# Altium schematic symbol library 74xx_IEEE.SchLib: 185 symbols (part 1 of 2)
Pins are listed as number, name and electrical type; pins without a type are passive.

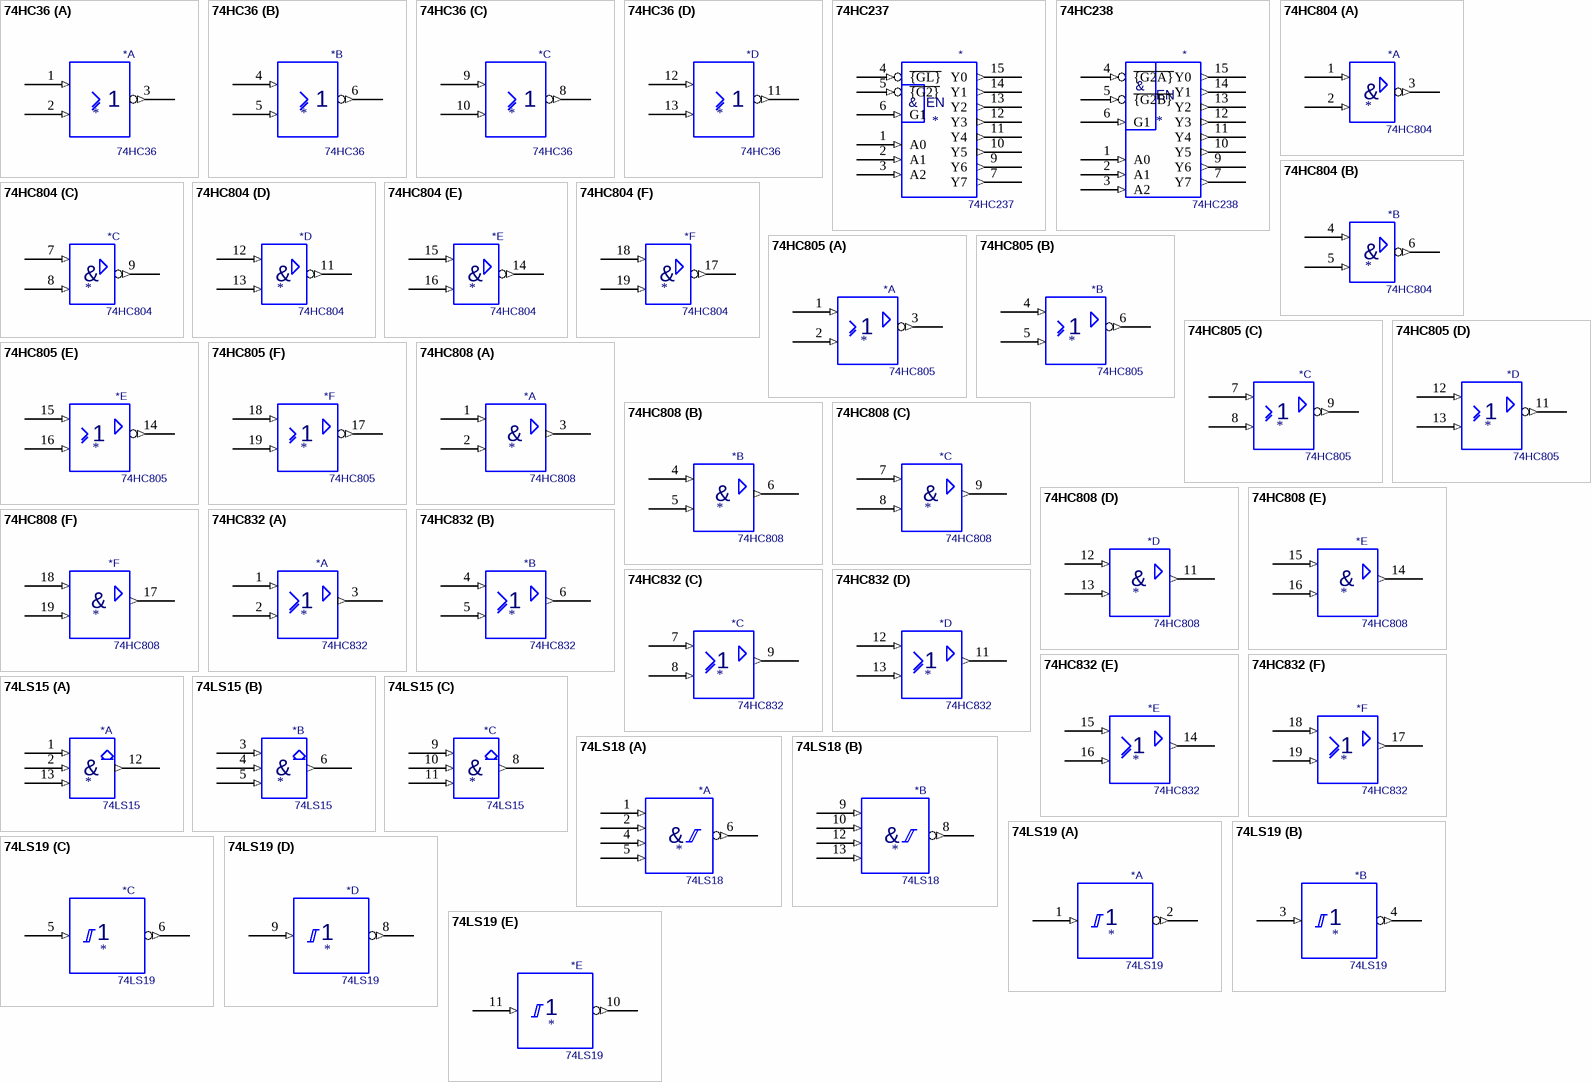
[diagram p0: symbols 74HC36 to 74LS19]

## 74HC36
designator *  value 74HC36
part A pins: 1 (in), 2 (in), 3 (out), 7 Gnd (power) hidden, 14 Vcc (power) hidden
part B pins: 4 (in), 5 (in), 6 (out), 7 Gnd (power) hidden, 14 Vcc (power) hidden
part C pins: 7 Gnd (power) hidden, 8 (out), 9 (in), 10 (in), 14 Vcc (power) hidden
part D pins: 7 Gnd (power) hidden, 11 (out), 12 (in), 13 (in), 14 Vcc (power) hidden

## 74HC237
designator *  value 74HC237
pins: 1 A0 (in), 2 A1 (in), 3 A2 (in), 4 ~{{GL}} (in), 5 ~{{G2}} (in), 6 G1 (in), 7 Y7 (out), 8 GND (power) hidden, 9 Y6 (out), 10 Y5 (out), 11 Y4 (out), 12 Y3 (out), 13 Y2 (out), 14 Y1 (out), 15 Y0 (out), 16 VCC (power) hidden
text: &; EN

## 74HC238
designator *  value 74HC238
pins: 1 A0 (in), 2 A1 (in), 3 A2 (in), 4 ~{{G2A}} (in), 5 ~{{G2B}} (in), 6 G1 (in), 7 Y7 (out), 8 GND (power) hidden, 9 Y6 (out), 10 Y5 (out), 11 Y4 (out), 12 Y3 (out), 13 Y2 (out), 14 Y1 (out), 15 Y0 (out), 16 VCC (power) hidden
text: &; EN

## 74HC804
designator *  value 74HC804
part A pins: 1 (in), 2 (in), 3 (out), 10 Gnd (power) hidden, 20 Vcc (power) hidden
part B pins: 4 (in), 5 (in), 6 (out), 10 Gnd (power) hidden, 20 Vcc (power) hidden
part C pins: 7 (in), 8 (in), 9 (out), 10 Gnd (power) hidden, 20 Vcc (power) hidden
part D pins: 10 Gnd (power) hidden, 11 (out), 12 (in), 13 (in), 20 Vcc (power) hidden
part E pins: 10 Gnd (power) hidden, 14 (out), 15 (in), 16 (in), 20 Vcc (power) hidden
part F pins: 10 Gnd (power) hidden, 17 (out), 18 (in), 19 (in), 20 Vcc (power) hidden
part A text: &
part B text: &
part C text: &
part D text: &
part E text: &
part F text: &

## 74HC805
designator *  value 74HC805
part A pins: 1 (in), 2 (in), 3 (out), 10 Gnd (power) hidden, 20 Vcc (power) hidden
part B pins: 4 (in), 5 (in), 6 (out), 10 Gnd (power) hidden, 20 Vcc (power) hidden
part C pins: 7 (in), 8 (in), 9 (out), 10 Gnd (power) hidden, 20 Vcc (power) hidden
part D pins: 10 Gnd (power) hidden, 11 (out), 12 (in), 13 (in), 20 Vcc (power) hidden
part E pins: 10 Gnd (power) hidden, 14 (out), 15 (in), 16 (in), 20 Vcc (power) hidden
part F pins: 10 Gnd (power) hidden, 17 (out), 18 (in), 19 (in), 20 Vcc (power) hidden

## 74HC808
designator *  value 74HC808
part A pins: 1 (in), 2 (in), 3 (out), 10 Gnd (power) hidden, 20 Vcc (power) hidden
part B pins: 4 (in), 5 (in), 6 (out), 10 Gnd (power) hidden, 20 Vcc (power) hidden
part C pins: 7 (in), 8 (in), 9 (out), 10 Gnd (power) hidden, 20 Vcc (power) hidden
part D pins: 10 Gnd (power) hidden, 11 (out), 12 (in), 13 (in), 20 Vcc (power) hidden
part E pins: 10 Gnd (power) hidden, 14 (out), 15 (in), 16 (in), 20 Vcc (power) hidden
part F pins: 10 Gnd (power) hidden, 17 (out), 18 (in), 19 (in), 20 Vcc (power) hidden
part A text: &
part B text: &
part C text: &
part D text: &
part E text: &
part F text: &

## 74HC832
designator *  value 74HC832
part A pins: 1 (in), 2 (in), 3 (out), 10 Gnd (power) hidden, 20 Vcc (power) hidden
part B pins: 4 (in), 5 (in), 6 (out), 10 Gnd (power) hidden, 20 Vcc (power) hidden
part C pins: 7 (in), 8 (in), 9 (out), 10 Gnd (power) hidden, 20 Vcc (power) hidden
part D pins: 10 Gnd (power) hidden, 11 (out), 12 (in), 13 (in), 20 Vcc (power) hidden
part E pins: 10 Gnd (power) hidden, 14 (out), 15 (in), 16 (in), 20 Vcc (power) hidden
part F pins: 10 Gnd (power) hidden, 17 (out), 18 (in), 19 (in), 20 Vcc (power) hidden

## 74LS15
designator *  value 74LS15
part A pins: 1 (in), 2 (in), 7 Gnd (power) hidden, 12 (out), 13 (in), 14 Vcc (power) hidden
part B pins: 3 (in), 4 (in), 5 (in), 6 (out), 7 Gnd (power) hidden, 14 Vcc (power) hidden
part C pins: 7 Gnd (power) hidden, 8 (out), 9 (in), 10 (in), 11 (in), 14 Vcc (power) hidden
part A text: &
part B text: &
part C text: &

## 74LS18
designator *  value 74LS18
part A pins: 1 (in), 2 (in), 4 (in), 5 (in), 6 (out), 7 Vss (power) hidden, 14 Vdd (power) hidden
part B pins: 7 Vss (power) hidden, 8 (out), 9 (in), 10 (in), 12 (in), 13 (in), 14 Vdd (power) hidden
part A text: &
part B text: &

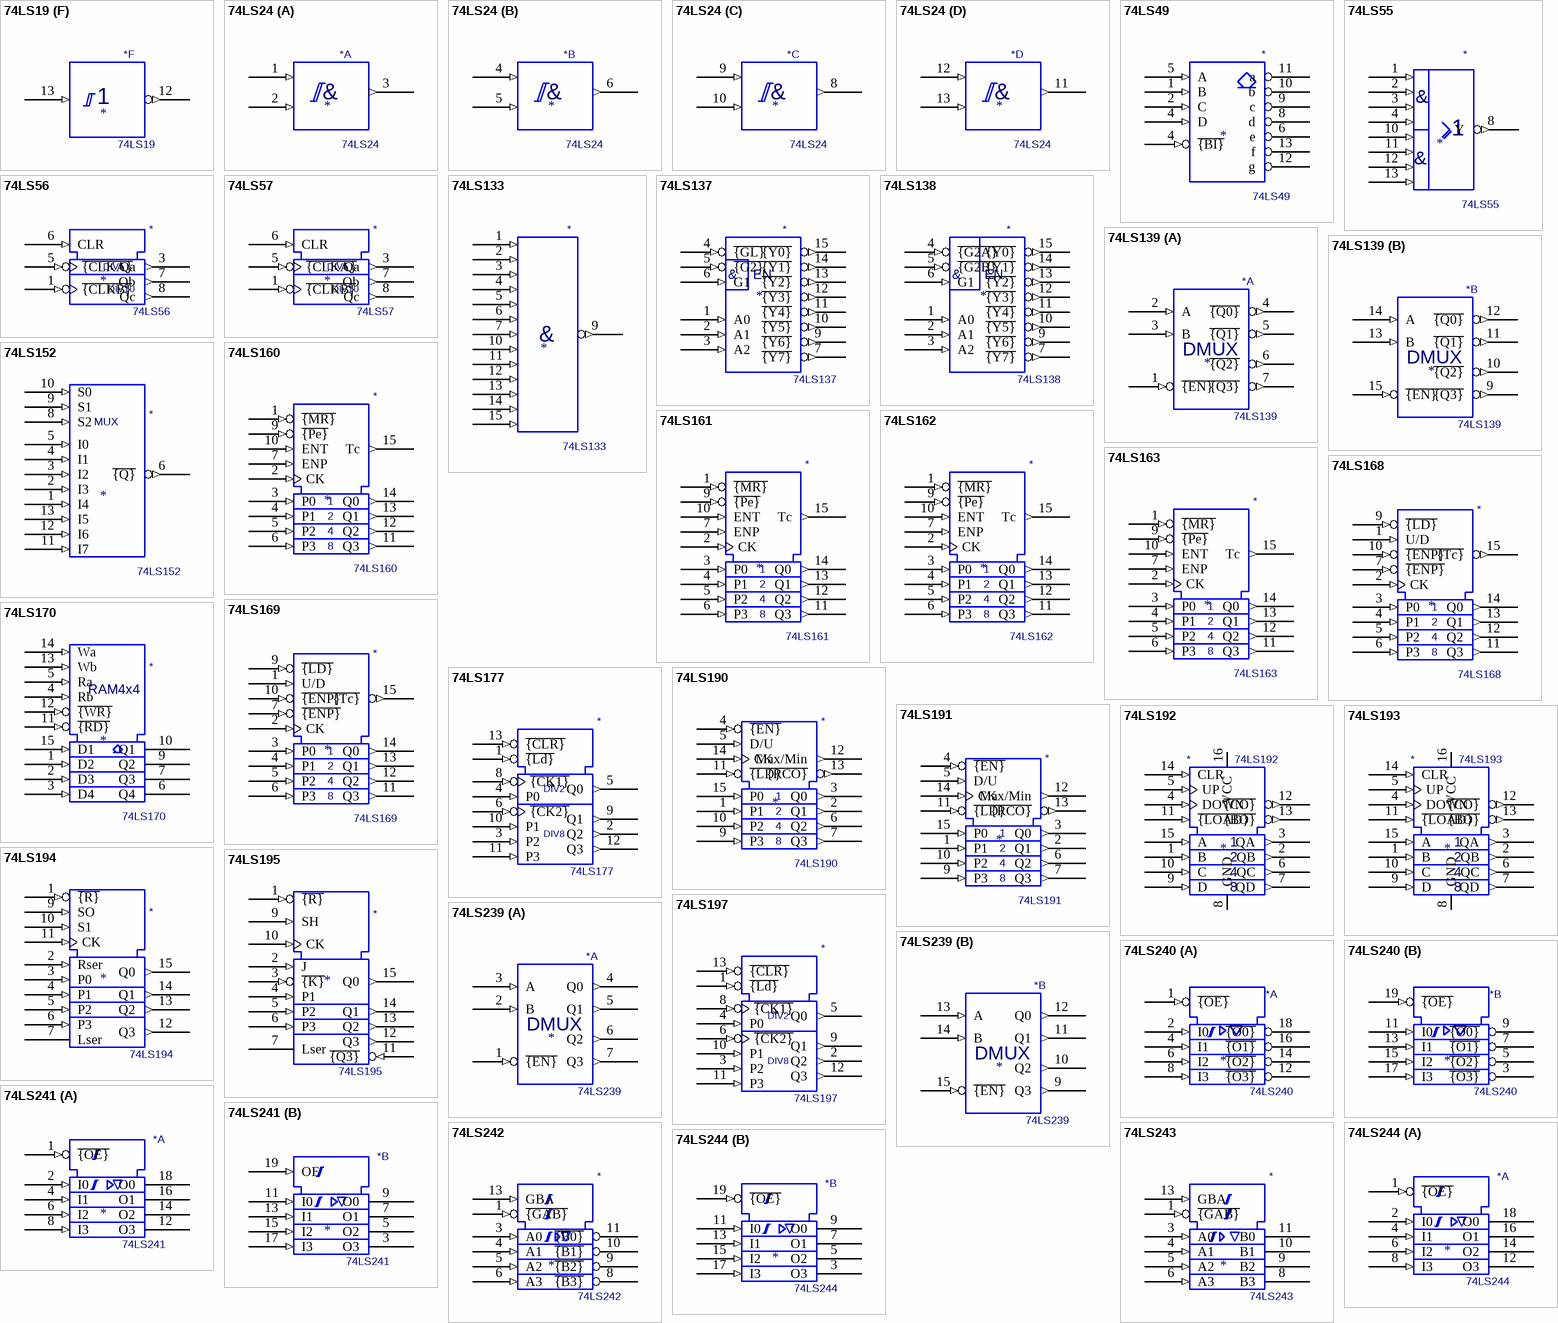
[diagram p1: symbols 74LS19 to 74LS244]

## 74LS19
designator *  value 74LS19
part A pins: 1 (in), 2 (out), 7 Gnd (power) hidden, 14 Vcc (power) hidden
part B pins: 3 (in), 4 (out), 7 Gnd (power) hidden, 14 Vcc (power) hidden
part C pins: 5 (in), 6 (out), 7 Gnd (power) hidden, 14 Vcc (power) hidden
part D pins: 7 Gnd (power) hidden, 8 (out), 9 (in), 14 Vcc (power) hidden
part E pins: 7 Gnd (power) hidden, 10 (out), 11 (in), 14 Vcc (power) hidden
part F pins: 7 Gnd (power) hidden, 12 (out), 13 (in), 14 Vcc (power) hidden

## 74LS24
designator *  value 74LS24
part A pins: 1 (in), 2 (in), 3 (out), 7 Gnd (power) hidden, 14 Vcc (power) hidden
part B pins: 4 (in), 5 (in), 6 (out), 7 Gnd (power) hidden, 14 Vcc (power) hidden
part C pins: 7 Gnd (power) hidden, 8 (out), 9 (in), 10 (in), 14 Vcc (power) hidden
part D pins: 7 Gnd (power) hidden, 11 (out), 12 (in), 13 (in), 14 Vcc (power) hidden
part A text: &
part B text: &
part C text: &
part D text: &

## 74LS49
designator *  value 74LS49
pins: 1 B (in), 2 C (in), 4 D (in), 4 ~{{BI}} (in), 5 A (in), 6 e (oc), 7 GND (power) hidden, 8 d (oc), 9 c (oc), 10 b (oc), 11 a (oc), 12 g (oc), 13 f (oc), 14 VCC (power) hidden

## 74LS55
designator *  value 74LS55
pins: 1 (in), 2 (in), 3 (in), 4 (in), 7 GND (power) hidden, 8 Y (out), 10 (in), 11 (in), 12 (in), 13 (in), 14 VCC (power) hidden
text: &

## 74LS56
designator *  value 74LS56
pins: 1 ~{{CLKB}} (in), 2 Vcc (power) hidden, 3 Qa (out), 4 Gnd (power) hidden, 5 ~{{CLKA}} (in), 6 CLR (in), 7 Qb (out), 8 Qc (out)
text: DIV5; DIV10

## 74LS57
designator *  value 74LS57
pins: 1 ~{{CLKB}} (in), 2 Vcc (power) hidden, 3 Qa (out), 4 Gnd (power) hidden, 5 ~{{CLKA}} (in), 6 CLR (in), 7 Qb (out), 8 Qc (out)
text: DIV5; DIV10

## 74LS133
designator *  value 74LS133
pins: 1 (in), 2 (in), 3 (in), 4 (in), 5 (in), 6 (in), 7 (in), 8 Gnd (power) hidden, 9 (out), 10 (in), 11 (in), 12 (in), 13 (in), 14 (in), 15 (in), 16 Vcc (power) hidden
text: &

## 74LS137
designator *  value 74LS137
pins: 1 A0 (in), 2 A1 (in), 3 A2 (in), 4 ~{{GL}} (in), 5 ~{{G2}} (in), 6 G1 (in), 7 ~{{Y7}} (out), 8 GND (power) hidden, 9 ~{{Y6}} (out), 10 ~{{Y5}} (out), 11 ~{{Y4}} (out), 12 ~{{Y3}} (out), 13 ~{{Y2}} (out), 14 ~{{Y1}} (out), 15 ~{{Y0}} (out), 16 VCC (power) hidden
text: &; EN

## 74LS138
designator *  value 74LS138
pins: 1 A0 (in), 2 A1 (in), 3 A2 (in), 4 ~{{G2A}} (in), 5 ~{{G2B}} (in), 6 G1 (in), 7 ~{{Y7}} (out), 8 GND (power) hidden, 9 ~{{Y6}} (out), 10 ~{{Y5}} (out), 11 ~{{Y4}} (out), 12 ~{{Y3}} (out), 13 ~{{Y2}} (out), 14 ~{{Y1}} (out), 15 ~{{Y0}} (out), 16 VCC (power) hidden
text: &; EN

## 74LS139
designator *  value 74LS139
ki_keywords: TTL DECOD4; ki_description: Dual Decoder 1 of 4, Active low outputs; Supplier: http://www.ti.com/lit/ds/symlink/sn74ls139a.pdf
part A pins: 1 ~{{EN}} (in), 2 A (in), 3 B (in), 4 ~{{Q0}} (out), 5 ~{{Q1}} (out), 6 ~{{Q2}} (out), 7 ~{{Q3}} (out), 8 GND (power) hidden, 16 VCC (power) hidden
part B pins: 8 GND (power) hidden, 9 ~{{Q3}} (out), 10 ~{{Q2}} (out), 11 ~{{Q1}} (out), 12 ~{{Q0}} (out), 13 B (in), 14 A (in), 15 ~{{EN}} (in), 16 VCC (power) hidden
part A text: DMUX
part B text: DMUX

## 74LS152
designator *  value 74LS152
pins: 1 I4 (in), 2 I3 (in), 3 I2 (in), 4 I1 (in), 5 I0 (in), 6 ~{{Q}} (out), 7 GND (power) hidden, 8 S2 (in), 9 S1 (in), 10 S0 (in), 11 I7 (in), 12 I6 (in), 13 I5 (in), 14 VCC (power) hidden
text: MUX

## 74LS160
designator *  value 74LS160
pins: 1 ~{{MR}} (in), 2 CK (in), 3 P0 (in), 4 P1 (in), 5 P2 (in), 6 P3 (in), 7 ENP (in), 8 GND (power) hidden, 9 ~{{Pe}} (in), 10 ENT (in), 11 Q3 (out), 12 Q2 (out), 13 Q1 (out), 14 Q0 (out), 15 Tc (out), 16 VCC (power) hidden

## 74LS161
designator *  value 74LS161
pins: 1 ~{{MR}} (in), 2 CK (in), 3 P0 (in), 4 P1 (in), 5 P2 (in), 6 P3 (in), 7 ENP (in), 8 GND (power) hidden, 9 ~{{Pe}} (in), 10 ENT (in), 11 Q3 (out), 12 Q2 (out), 13 Q1 (out), 14 Q0 (out), 15 Tc (out), 16 VCC (power) hidden

## 74LS162
designator *  value 74LS162
pins: 1 ~{{MR}} (in), 2 CK (in), 3 P0 (in), 4 P1 (in), 5 P2 (in), 6 P3 (in), 7 ENP (in), 8 GND (power) hidden, 9 ~{{Pe}} (in), 10 ENT (in), 11 Q3 (out), 12 Q2 (out), 13 Q1 (out), 14 Q0 (out), 15 Tc (out), 16 VCC (power) hidden

## 74LS163
designator *  value 74LS163
pins: 1 ~{{MR}} (in), 2 CK (in), 3 P0 (in), 4 P1 (in), 5 P2 (in), 6 P3 (in), 7 ENP (in), 8 GND (power) hidden, 9 ~{{Pe}} (in), 10 ENT (in), 11 Q3 (out), 12 Q2 (out), 13 Q1 (out), 14 Q0 (out), 15 Tc (out), 16 VCC (power) hidden

## 74LS168
designator *  value 74LS168
pins: 1 U/D (in), 2 CK (in), 3 P0 (in), 4 P1 (in), 5 P2 (in), 6 P3 (in), 7 ~{{ENP}} (in), 8 GND (power) hidden, 9 ~{{LD}} (in), 10 ~{{ENP}} (in), 11 Q3 (out), 12 Q2 (out), 13 Q1 (out), 14 Q0 (out), 15 ~{{Tc}} (out), 16 VCC (power) hidden

## 74LS169
designator *  value 74LS169
pins: 1 U/D (in), 2 CK (in), 3 P0 (in), 4 P1 (in), 5 P2 (in), 6 P3 (in), 7 ~{{ENP}} (in), 8 GND (power) hidden, 9 ~{{LD}} (in), 10 ~{{ENP}} (in), 11 Q3 (out), 12 Q2 (out), 13 Q1 (out), 14 Q0 (out), 15 ~{{Tc}} (out), 16 VCC (power) hidden

## 74LS170
designator *  value 74LS170
pins: 1 D2 (in), 2 D3 (in), 3 D4 (in), 4 Rb (in), 5 Ra (in), 6 Q4 (hiz), 7 Q3 (hiz), 8 GND (power) hidden, 9 Q2 (hiz), 10 Q1 (hiz), 11 ~{{RD}} (in), 12 ~{{WR}} (in), 13 Wb (in), 14 Wa (in), 15 D1 (in), 16 VCC (power) hidden
text: RAM4x4

## 74LS177
designator *  value 74LS177
pins: 1 ~{{Ld}} (in), 2 Q2 (out), 3 P2 (in), 4 P0 (in), 5 Q0 (out), 6 ~{{CK2}} (in), 7 GND (power) hidden, 8 ~{{CK1}} (in), 9 Q1 (out), 10 P1 (in), 11 P3 (in), 12 Q3 (out), 13 ~{{CLR}} (in), 14 VCC (power) hidden
text: DIV2; DIV8

## 74LS190
designator *  value 74LS190
pins: 1 P1 (in), 2 Q1 (out), 3 Q0 (out), 4 ~{{EN}} (in), 5 D/U (in), 6 Q2 (out), 7 Q3 (out), 8 GND (power) hidden, 9 P3 (in), 10 P2 (in), 11 ~{{LD}} (in), 12 Max/Min (out), 13 ~{{RCO}} (out), 14 CK (in), 15 P0 (in), 16 VCC (power) hidden

## 74LS191
designator *  value 74LS191
pins: 1 P1 (in), 2 Q1 (out), 3 Q0 (out), 4 ~{{EN}} (in), 5 D/U (in), 6 Q2 (out), 7 Q3 (out), 8 GND (power) hidden, 9 P3 (in), 10 P2 (in), 11 ~{{LD}} (in), 12 Max/Min (out), 13 ~{{RCO}} (out), 14 CK (in), 15 P0 (in), 16 VCC (power) hidden

## 74LS192
designator *  value 74LS192
ki_keywords: TTL CNT CNT4; ki_description: Synchronous 4-bit Up/Down (2 clk) counter; ki_fp_filters: SOIC*3.9x9.9mm*P1.27mm* DIP*W7.62mm*; Supplier: http://www.ti.com/lit/ds/symlink/sn74ls193.pdf
pins: 1 B (in), 2 QB (out), 3 QA (out), 4 DOWN (in), 5 UP (in), 6 QC (out), 7 QD (out), 8 GND (power), 9 D (in), 10 C (in), 11 ~{{LOAD}} (in), 12 ~{{CO}} (out), 13 ~{{BO}} (out), 14 CLR (in), 15 A (in), 16 VCC (power)

## 74LS193
designator *  value 74LS193
ki_keywords: TTL CNT CNT4; ki_description: Synchronous 4-bit Up/Down (2 clk) counter; ki_fp_filters: SOIC*3.9x9.9mm*P1.27mm* DIP*W7.62mm*; Supplier: http://www.ti.com/lit/ds/symlink/sn74ls193.pdf
pins: 1 B (in), 2 QB (out), 3 QA (out), 4 DOWN (in), 5 UP (in), 6 QC (out), 7 QD (out), 8 GND (power), 9 D (in), 10 C (in), 11 ~{{LOAD}} (in), 12 ~{{CO}} (out), 13 ~{{BO}} (out), 14 CLR (in), 15 A (in), 16 VCC (power)

## 74LS194
designator *  value 74LS194
pins: 1 ~{{R}} (in), 2 Rser (in), 3 P0 (in), 4 P1 (in), 5 P2 (in), 6 P3 (in), 7 Lser (power), 8 GND (power) hidden, 9 SO (in), 10 S1 (in), 11 CK (in), 12 Q3 (out), 13 Q2 (out), 14 Q1 (out), 15 Q0 (out), 16 Vdd (power) hidden

## 74LS195
designator *  value 74LS195
pins: 1 ~{{R}} (in), 2 J (in), 3 ~{{K}} (in), 4 P1 (in), 5 P2 (in), 6 P3 (in), 7 Lser (power), 8 GND (power) hidden, 9 SH (in), 10 CK (in), 11 ~{{Q3}} (in), 12 Q3 (out), 13 Q2 (out), 14 Q1 (out), 15 Q0 (out), 16 Vdd (power) hidden

## 74LS197
designator *  value 74LS197
pins: 1 ~{{Ld}} (in), 2 Q2 (out), 3 P2 (in), 4 P0 (in), 5 Q0 (out), 6 ~{{CK2}} (in), 7 GND (power) hidden, 8 ~{{CK1}} (in), 9 Q1 (out), 10 P1 (in), 11 P3 (in), 12 Q3 (out), 13 ~{{CLR}} (in), 14 VCC (power) hidden
text: DIV2; DIV8

## 74LS239
designator *  value 74LS239
part A pins: 1 ~{{EN}} (in), 2 B (in), 3 A (in), 4 Q0 (out), 5 Q1 (out), 6 Q2 (out), 7 Q3 (out), 8 GND (power) hidden, 16 VCC (power) hidden
part B pins: 8 GND (power) hidden, 9 Q3 (out), 10 Q2 (out), 11 Q1 (out), 12 Q0 (out), 13 A (in), 14 B (in), 15 ~{{EN}} (in), 16 VCC (power) hidden
part A text: DMUX
part B text: DMUX

## 74LS240
designator *  value 74LS240
ki_keywords: 7400 logic ttl low power schottky; ki_description: Octal Buffer and Line Driver With 3-State Output, active-low enables, inverting outputs; Supplier: http://www.ti.com/lit/ds/symlink/sn74ls240.pdf
part A pins: 1 ~{{OE}} (in), 2 I0 (in), 4 I1 (in), 6 I2 (in), 8 I3 (in), 10 GND (power) hidden, 12 ~{{O3}} (hiz), 14 ~{{O2}} (hiz), 16 ~{{O1}} (hiz), 18 ~{{O0}} (hiz), 20 VCC (power) hidden
part B pins: 3 ~{{O3}} (hiz), 5 ~{{O2}} (hiz), 7 ~{{O1}} (hiz), 9 ~{{O0}} (hiz), 10 GND (power) hidden, 11 I0 (in), 13 I1 (in), 15 I2 (in), 17 I3 (in), 19 ~{{OE}} (in), 20 VCC (power) hidden

## 74LS241
designator *  value 74LS241
ki_keywords: 7400 logic ttl low power schottky; ki_description: Octal Buffer and Line Driver With 3-State Output, complementary enables, non-inverting outputs; Supplier: http://www.ti.com/lit/ds/symlink/sn74ls241.pdf
part A pins: 1 ~{{OE}} (in), 2 I0 (in), 4 I1 (in), 6 I2 (in), 8 I3 (in), 10 GND (power) hidden, 12 O3 (hiz), 14 O2 (hiz), 16 O1 (hiz), 18 O0 (hiz), 20 VCC (power) hidden
part B pins: 3 O3 (hiz), 5 O2 (hiz), 7 O1 (hiz), 9 O0 (hiz), 10 GND (power) hidden, 11 I0 (in), 13 I1 (in), 15 I2 (in), 17 I3 (in), 19 OE (in), 20 VCC (power) hidden

## 74LS242
designator *  value 74LS242
pins: 1 ~{{GAB}} (in), 3 A0 (in), 4 A1 (in), 5 A2 (in), 6 A3 (in), 7 GND (power) hidden, 8 ~{{B3}} (hiz), 9 ~{{B2}} (hiz), 10 ~{{B1}} (hiz), 11 ~{{B0}} (hiz), 13 GBA (in), 14 VCC (power) hidden

## 74LS243
designator *  value 74LS243
pins: 1 ~{{GAB}} (in), 3 A0 (in), 4 A1 (in), 5 A2 (in), 6 A3 (in), 7 GND (power) hidden, 8 B3 (hiz), 9 B2 (hiz), 10 B1 (hiz), 11 B0 (hiz), 13 GBA (in), 14 VCC (power) hidden

## 74LS244
designator *  value 74LS244
ki_keywords: 7400 logic ttl low power schottky; ki_description: Octal Buffer and Line Driver With 3-State Output, active-low enables, non-inverting outputs; Supplier: http://www.ti.com/lit/ds/symlink/sn74ls244.pdf
part A pins: 1 ~{{OE}} (in), 2 I0 (in), 4 I1 (in), 6 I2 (in), 8 I3 (in), 10 GND (power) hidden, 12 O3 (hiz), 14 O2 (hiz), 16 O1 (hiz), 18 O0 (hiz), 20 VCC (power) hidden
part B pins: 3 O3 (hiz), 5 O2 (hiz), 7 O1 (hiz), 9 O0 (hiz), 10 GND (power) hidden, 11 I0 (in), 13 I1 (in), 15 I2 (in), 17 I3 (in), 19 ~{{OE}} (in), 20 VCC (power) hidden

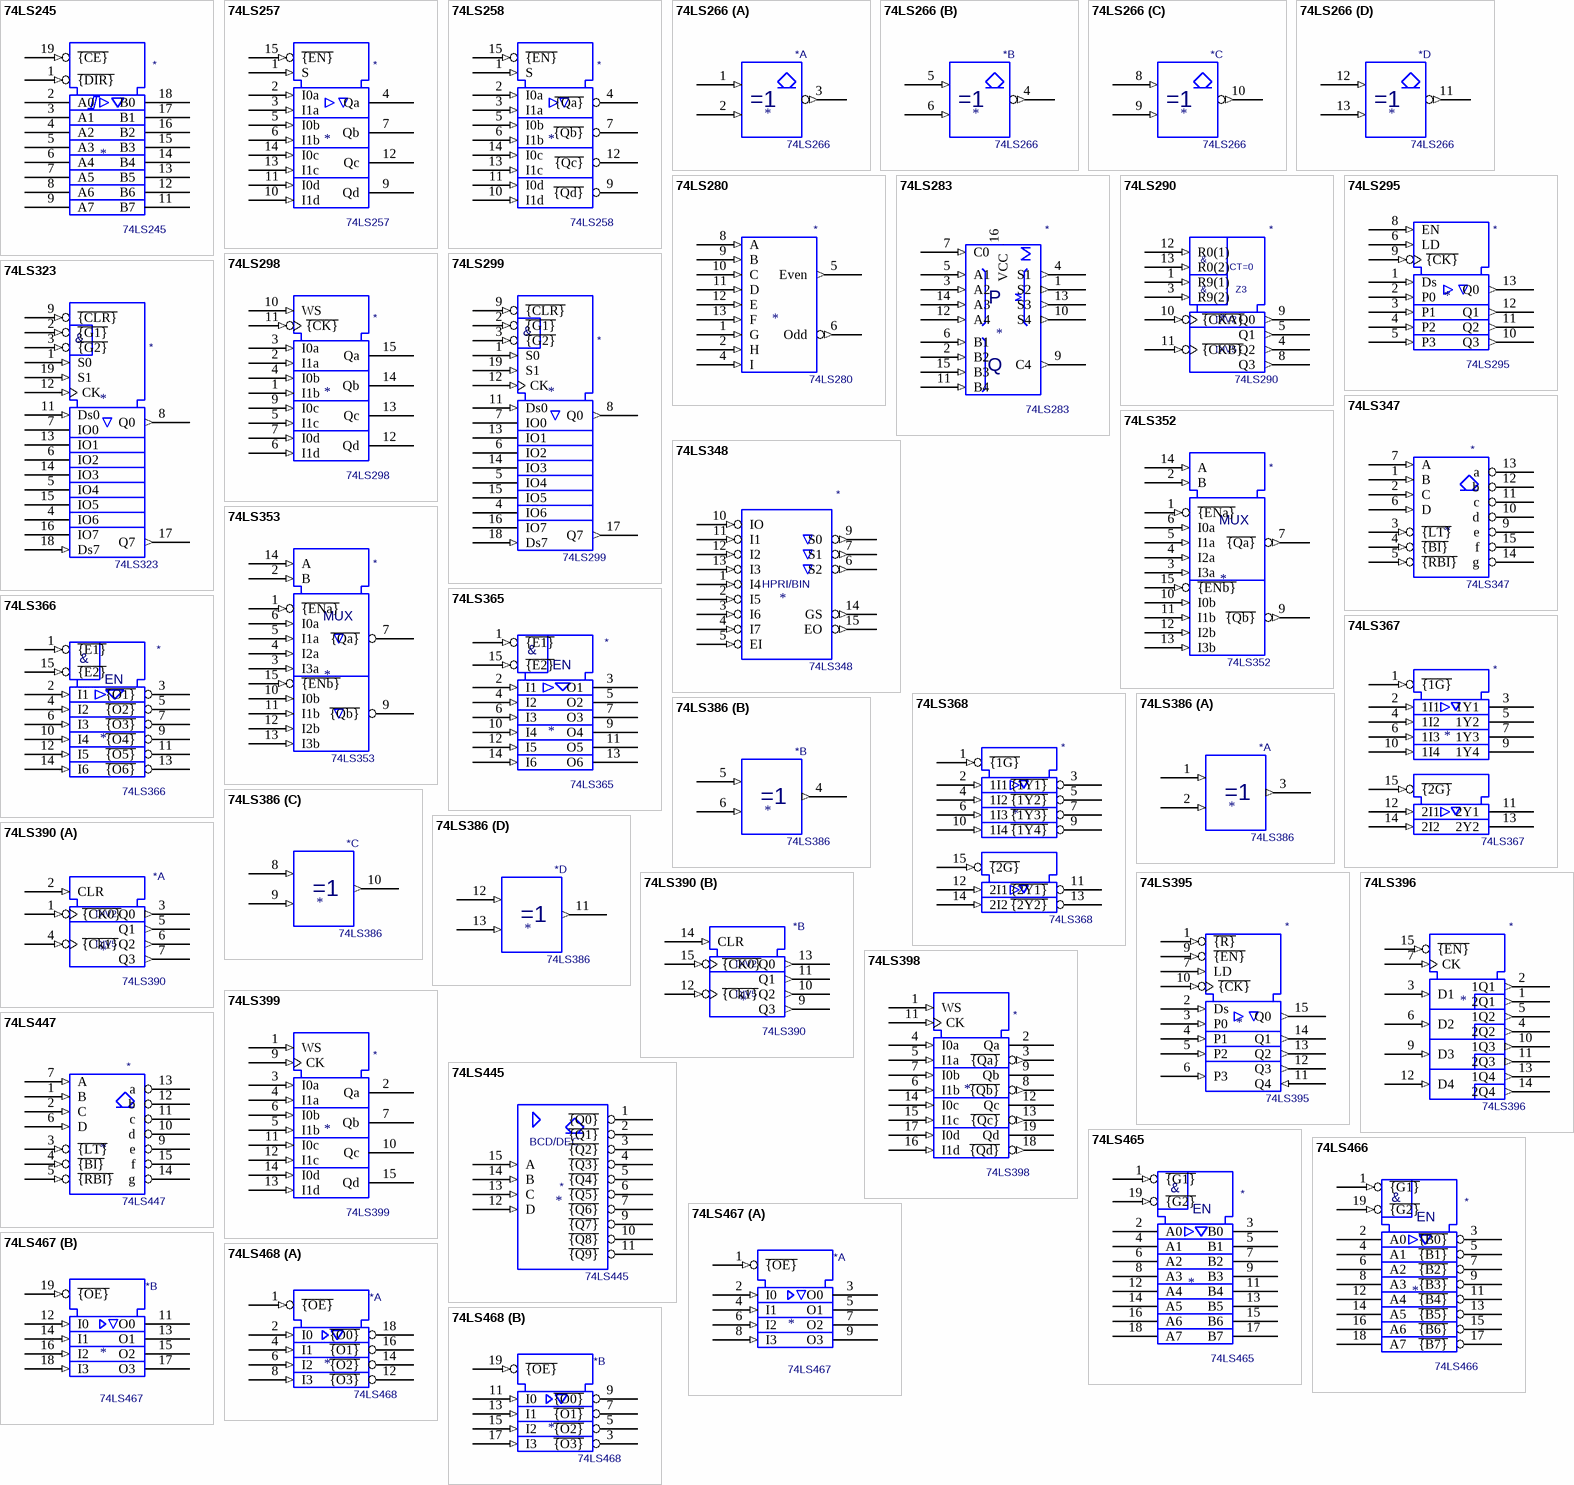
[diagram p2: symbols 74LS245 to 74LS468]

## 74LS245
designator *  value 74LS245
pins: 1 ~{{DIR}} (in), 2 A0 (hiz), 3 A1 (hiz), 4 A2 (hiz), 5 A3 (hiz), 6 A4 (hiz), 7 A5 (hiz), 8 A6 (hiz), 9 A7 (hiz), 10 GND (power) hidden, 11 B7 (hiz), 12 B6 (hiz), 13 B5 (hiz), 14 B4 (hiz), 15 B3 (hiz), 16 B2 (hiz), 17 B1 (hiz), 18 B0 (hiz), 19 ~{{CE}} (in), 20 VCC (power) hidden

## 74LS257
designator *  value 74LS257
pins: 1 S (in), 2 I0a (in), 3 I1a (in), 4 Qa (hiz), 5 I0b (in), 6 I1b (in), 7 Qb (hiz), 8 GND (power) hidden, 9 Qd (hiz), 10 I1d (in), 11 I0d (in), 12 Qc (hiz), 13 I1c (in), 14 I0c (in), 15 ~{{EN}} (in), 16 VCC (power) hidden

## 74LS258
designator *  value 74LS258
pins: 1 S (in), 2 I0a (in), 3 I1a (in), 4 ~{{Qa}} (hiz), 5 I0b (in), 6 I1b (in), 7 ~{{Qb}} (hiz), 8 GND (power) hidden, 9 ~{{Qd}} (hiz), 10 I1d (in), 11 I0d (in), 12 ~{{Qc}} (hiz), 13 I1c (in), 14 I0c (in), 15 ~{{EN}} (in), 16 VCC (power) hidden

## 74LS266
designator *  value 74LS266
part A pins: 1 (in), 2 (in), 3 (out), 7 GND (power) hidden, 14 VCC (power) hidden
part B pins: 4 (out), 5 (in), 6 (in), 7 GND (power) hidden, 14 VCC (power) hidden
part C pins: 7 GND (power) hidden, 8 (in), 9 (in), 10 (out), 14 VCC (power) hidden
part D pins: 7 GND (power) hidden, 11 (out), 12 (in), 13 (in), 14 VCC (power) hidden

## 74LS280
designator *  value 74LS280
pins: 1 G (in), 2 H (in), 4 I (in), 5 Even (out), 6 Odd (out), 7 GND (power) hidden, 8 A (in), 9 B (in), 10 C (in), 11 D (in), 12 E (in), 13 F (in), 14 VCC (power) hidden

## 74LS283
designator *  value 74LS283
pins: 1 S2 (out), 2 B2 (in), 3 A2 (in), 4 S1 (out), 5 A1 (in), 6 B1 (in), 7 C0 (in), 8 GND (power) hidden, 9 C4 (out), 10 S4 (out), 11 B4 (in), 12 A4 (in), 13 S3 (out), 14 A3 (in), 15 B3 (in), 16 VCC (power)
text: P; Q

## 74LS290
designator *  value 74LS290
pins: 1 R9(1) (in), 3 R9(2) (in), 4 Q2 (out), 5 Q1 (out), 8 GND (in) hidden, 8 Q3 (out), 9 Q0 (out), 10 ~{{CKA}} (in), 11 ~{{CKB}} (in), 12 R0(1) (in), 13 R0(2) (in), 16 VCC (power) hidden
text: &; CT=0; Z3; DIV2; DIV5

## 74LS295
designator *  value 74LS295
pins: 1 Ds (in), 2 P0 (in), 3 P1 (in), 4 P2 (in), 5 P3 (in), 6 LD (in), 7 GND (power) hidden, 8 EN (in), 9 ~{{CK}} (in), 10 Q3 (out), 11 Q2 (out), 12 Q1 (out), 13 Q0 (out), 14 VCC (power) hidden

## 74LS298
designator *  value 74LS298
pins: 1 I1b (in), 2 I1a (in), 3 I0a (in), 4 I0b (in), 5 I1c (in), 6 I1d (in), 7 I0d (in), 8 GND (power) hidden, 9 I0c (in), 10 WS (in), 11 ~{{CK}} (in), 12 Qd (hiz), 13 Qc (hiz), 14 Qb (hiz), 15 Qa (hiz), 16 VCC (power) hidden

## 74LS299
designator *  value 74LS299
pins: 1 S0 (in), 2 ~{{G1}} (in), 3 ~{{G2}} (in), 4 IO6 (hiz), 5 IO4 (hiz), 6 IO2 (hiz), 7 IO0 (hiz), 8 Q0 (out), 9 ~{{CLR}} (in), 10 GND (power) hidden, 11 Ds0 (in), 12 CK (in), 13 IO1 (hiz), 14 IO3 (hiz), 15 IO5 (hiz), 16 IO7 (hiz), 17 Q7 (out), 18 Ds7 (in), 19 S1 (in), 20 VCC (power) hidden
text: &

## 74LS323
designator *  value 74LS323
pins: 1 S0 (in), 2 ~{{G1}} (in), 3 ~{{G2}} (in), 4 IO6 (hiz), 5 IO4 (hiz), 6 IO2 (hiz), 7 IO0 (hiz), 8 Q0 (out), 9 ~{{CLR}} (in), 10 GND (power) hidden, 11 Ds0 (in), 12 CK (in), 13 IO1 (hiz), 14 IO3 (hiz), 15 IO5 (hiz), 16 IO7 (hiz), 17 Q7 (out), 18 Ds7 (in), 19 S1 (in), 20 VCC (power) hidden
text: &

## 74LS347
designator *  value 74LS347
pins: 1 B (in), 2 C (in), 3 ~{{LT}} (in), 4 ~{{BI}} (in), 5 ~{{RBI}} (in), 6 D (in), 7 A (in), 8 GND (power) hidden, 9 e (oc), 10 d (oc), 11 c (oc), 12 b (oc), 13 a (oc), 14 g (oc), 15 f (oc), 16 VCC (power) hidden

## 74LS348
designator *  value 74LS348
pins: 1 I4 (in), 2 I5 (in), 3 I6 (in), 4 I7 (in), 5 EI (in), 6 S2 (out), 7 S1 (out), 8 GND (power) hidden, 9 S0 (out), 10 IO (in), 11 I1 (in), 12 I2 (in), 13 I3 (in), 14 GS (out), 15 EO (out), 16 VCC (power) hidden
text: HPRI/BIN

## 74LS352
designator *  value 74LS352
pins: 1 ~{{ENa}} (in), 2 B (in), 3 I3a (in), 4 I2a (in), 5 I1a (in), 6 I0a (in), 7 ~{{Qa}} (out), 8 GND (power) hidden, 9 ~{{Qb}} (out), 10 I0b (in), 11 I1b (in), 12 I2b (in), 13 I3b (in), 14 A (in), 15 ~{{ENb}} (in), 16 VCC (power) hidden
text: MUX

## 74LS353
designator *  value 74LS353
pins: 1 ~{{ENa}} (in), 2 B (in), 3 I3a (in), 4 I2a (in), 5 I1a (in), 6 I0a (in), 7 ~{{Qa}} (hiz), 8 GND (power) hidden, 9 ~{{Qb}} (hiz), 10 I0b (in), 11 I1b (in), 12 I2b (in), 13 I3b (in), 14 A (in), 15 ~{{ENb}} (in), 16 VCC (power) hidden
text: MUX

## 74LS365
designator *  value 74LS365
pins: 1 ~{{E1}} (in), 2 I1 (in), 3 O1 (hiz), 4 I2 (in), 5 O2 (hiz), 6 I3 (in), 7 O3 (hiz), 8 GND (power) hidden, 9 O4 (hiz), 10 I4 (in), 11 O5 (hiz), 12 I5 (in), 13 O6 (hiz), 14 I6 (in), 15 ~{{E2}} (in), 16 VCC (power) hidden
text: &; EN

## 74LS366
designator *  value 74LS366
pins: 1 ~{{E1}} (in), 2 I1 (in), 3 ~{{O1}} (hiz), 4 I2 (in), 5 ~{{O2}} (hiz), 6 I3 (in), 7 ~{{O3}} (hiz), 8 GND (power) hidden, 9 ~{{O4}} (hiz), 10 I4 (in), 11 ~{{O5}} (hiz), 12 I5 (in), 13 ~{{O6}} (hiz), 14 I6 (in), 15 ~{{E2}} (in), 16 VCC (power) hidden
text: &; EN

## 74LS367
designator *  value 74LS367
pins: 1 ~{{1G}} (in), 2 1I1 (in), 3 1Y1 (hiz), 4 1I2 (in), 5 1Y2 (hiz), 6 1I3 (in), 7 1Y3 (hiz), 8 GND (power) hidden, 9 1Y4 (hiz), 10 1I4 (in), 11 2Y1 (hiz), 12 2I1 (in), 13 2Y2 (hiz), 14 2I2 (in), 15 ~{{2G}} (in), 16 VCC (power) hidden

## 74LS368
designator *  value 74LS368
pins: 1 ~{{1G}} (in), 2 1I1 (in), 3 ~{{1Y1}} (hiz), 4 1I2 (in), 5 ~{{1Y2}} (hiz), 6 1I3 (in), 7 ~{{1Y3}} (hiz), 8 GND (power) hidden, 9 ~{{1Y4}} (hiz), 10 1I4 (in), 11 ~{{2Y1}} (hiz), 12 2I1 (in), 13 ~{{2Y2}} (hiz), 14 2I2 (in), 15 ~{{2G}} (in), 16 VCC (power) hidden

## 74LS386
designator *  value 74LS386
part A pins: 1 (in), 2 (in), 3 (out), 7 Gnd (power) hidden, 14 Vcc (power) hidden
part B pins: 4 (out), 5 (in), 6 (in), 7 Gnd (power) hidden, 14 Vcc (power) hidden
part C pins: 7 Gnd (power) hidden, 8 (in), 9 (in), 10 (out), 14 Vcc (power) hidden
part D pins: 7 Gnd (power) hidden, 11 (out), 12 (in), 13 (in), 14 Vcc (power) hidden

## 74LS390
designator *  value 74LS390
part A pins: 1 ~{{CK0}} (in), 2 CLR (in), 3 Q0 (out), 4 ~{{Ck1}} (in), 5 Q1 (out), 6 Q2 (out), 7 Q3 (out), 8 GND (power) hidden, 16 VCC (power) hidden
part B pins: 8 GND (power) hidden, 9 Q3 (out), 10 Q2 (out), 11 Q1 (out), 12 ~{{Ck1}} (in), 13 Q0 (out), 14 CLR (in), 15 ~{{CK0}} (in), 16 VCC (power) hidden
part A text: DIV2; DIV5
part B text: DIV2; DIV5

## 74LS395
designator *  value 74LS395
pins: 1 ~{{R}} (in), 2 Ds (in), 3 P0 (in), 4 P1 (in), 5 P2 (in), 6 P3 (in), 7 LD (in), 8 GND (power) hidden, 9 ~{{EN}} (in), 10 ~{{CK}} (in), 11 Q4 (in), 12 Q3 (out), 13 Q2 (out), 14 Q1 (out), 15 Q0 (out), 16 Vdd (power) hidden

## 74LS396
designator *  value 74LS396
pins: 1 2Q1 (out), 2 1Q1 (out), 3 D1 (in), 4 2Q2 (out), 5 1Q2 (out), 6 D2 (in), 7 CK (in), 8 Vss (power) hidden, 9 D3 (in), 10 1Q3 (out), 11 2Q3 (out), 12 D4 (in), 13 1Q4 (out), 14 2Q4 (out), 15 ~{{EN}} (in), 16 Vdd (power) hidden

## 74LS398
designator *  value 74LS398
pins: 1 WS (in), 2 Qa (hiz), 3 ~{{Qa}} (out), 4 I0a (in), 5 I1a (in), 6 I1b (in), 7 I0b (in), 8 ~{{Qb}} (out), 9 Qb (hiz), 10 GND (power) hidden, 11 CK (in), 12 Qc (hiz), 13 ~{{Qc}} (out), 14 I0c (in), 15 I1c (in), 16 I1d (in), 17 I0d (in), 18 ~{{Qd}} (out), 19 Qd (hiz), 20 VCC (power) hidden

## 74LS399
designator *  value 74LS399
pins: 1 WS (in), 2 Qa (hiz), 3 I0a (in), 4 I1a (in), 5 I1b (in), 6 I0b (in), 7 Qb (hiz), 8 GND (power) hidden, 9 CK (in), 10 Qc (hiz), 11 I0c (in), 12 I1c (in), 13 I1d (in), 14 I0d (in), 15 Qd (hiz), 16 VCC (power) hidden

## 74LS445
designator *  value 74LS445
pins: 1 ~{{Q0}} (oc), 2 ~{{Q1}} (oc), 3 ~{{Q2}} (oc), 4 ~{{Q3}} (oc), 5 ~{{Q4}} (oc), 6 ~{{Q5}} (oc), 7 ~{{Q6}} (oc), 8 GND (power) hidden, 9 ~{{Q7}} (oc), 10 ~{{Q8}} (oc), 11 ~{{Q9}} (oc), 12 D (in), 13 C (in), 14 B (in), 15 A (in), 16 VCC (power) hidden
text: BCD/DEC

## 74LS447
designator *  value 74LS447
pins: 1 B (in), 2 C (in), 3 ~{{LT}} (in), 4 ~{{BI}} (in), 5 ~{{RBI}} (in), 6 D (in), 7 A (in), 8 GND (power) hidden, 9 e (oc), 10 d (oc), 11 c (oc), 12 b (oc), 13 a (oc), 14 g (oc), 15 f (oc), 16 VCC (power) hidden

## 74LS465
designator *  value 74LS465
pins: 1 ~{{G1}} (in), 2 A0 (hiz), 3 B0 (hiz), 4 A1 (hiz), 5 B1 (hiz), 6 A2 (hiz), 7 B2 (hiz), 8 A3 (hiz), 9 B3 (hiz), 10 GND (power) hidden, 11 B4 (hiz), 12 A4 (hiz), 13 B5 (hiz), 14 A5 (hiz), 15 B6 (hiz), 16 A6 (hiz), 17 B7 (hiz), 18 A7 (hiz), 19 ~{{G2}} (in), 20 VCC (power) hidden
text: &; EN

## 74LS466
designator *  value 74LS466
pins: 1 ~{{G1}} (in), 2 A0 (hiz), 3 ~{{B0}} (hiz), 4 A1 (hiz), 5 ~{{B1}} (hiz), 6 A2 (hiz), 7 ~{{B2}} (hiz), 8 A3 (hiz), 9 ~{{B3}} (hiz), 10 GND (power) hidden, 11 ~{{B4}} (hiz), 12 A4 (hiz), 13 ~{{B5}} (hiz), 14 A5 (hiz), 15 ~{{B6}} (hiz), 16 A6 (hiz), 17 ~{{B7}} (hiz), 18 A7 (hiz), 19 ~{{G2}} (in), 20 VCC (power) hidden
text: &; EN

## 74LS467
designator *  value 74LS467
part A pins: 1 ~{{OE}} (in), 2 I0 (in), 3 O0 (hiz), 4 I1 (in), 5 O1 (hiz), 6 I2 (in), 7 O2 (hiz), 8 I3 (in), 9 O3 (hiz), 10 GND (power) hidden, 20 VCC (power) hidden
part B pins: 10 GND (power) hidden, 11 O0 (hiz), 12 I0 (in), 13 O1 (hiz), 14 I1 (in), 15 O2 (hiz), 16 I2 (in), 17 O3 (hiz), 18 I3 (in), 19 ~{{OE}} (in), 20 VCC (power) hidden

## 74LS468
designator *  value 74LS468
part A pins: 1 ~{{OE}} (in), 2 I0 (in), 4 I1 (in), 6 I2 (in), 8 I3 (in), 10 GND (power) hidden, 12 ~{{O3}} (hiz), 14 ~{{O2}} (hiz), 16 ~{{O1}} (hiz), 18 ~{{O0}} (hiz), 20 VCC (power) hidden
part B pins: 3 ~{{O3}} (hiz), 5 ~{{O2}} (hiz), 7 ~{{O1}} (hiz), 9 ~{{O0}} (hiz), 10 GND (power) hidden, 11 I0 (in), 13 I1 (in), 15 I2 (in), 17 I3 (in), 19 ~{{OE}} (in), 20 VCC (power) hidden

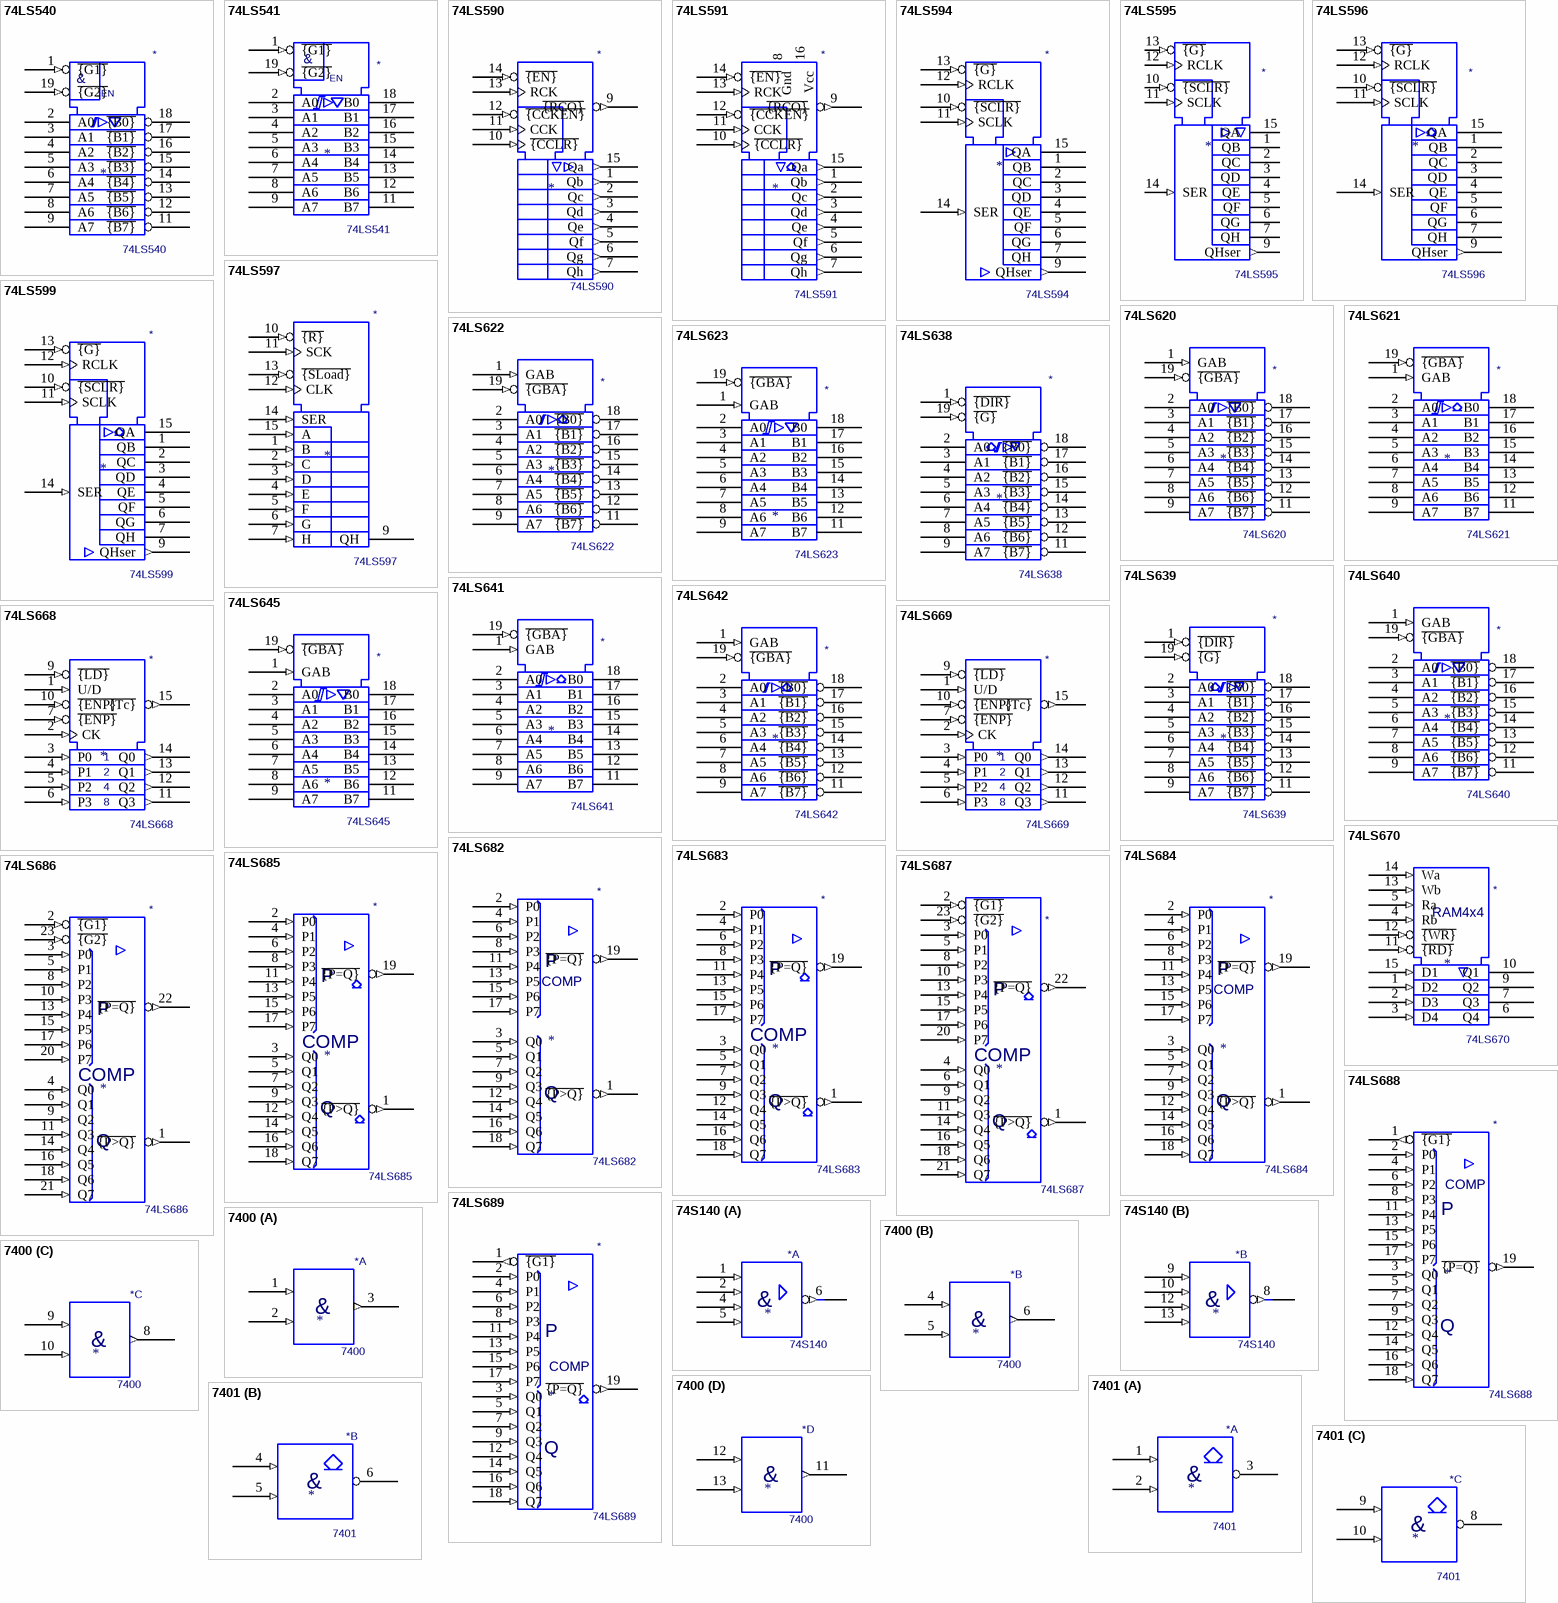
[diagram p3: symbols 74LS540 to 7401]

## 74LS540
designator *  value 74LS540
pins: 1 ~{{G1}} (in), 2 A0 (hiz), 3 A1 (hiz), 4 A2 (hiz), 5 A3 (hiz), 6 A4 (hiz), 7 A5 (hiz), 8 A6 (hiz), 9 A7 (hiz), 10 GND (power) hidden, 11 ~{{B7}} (hiz), 12 ~{{B6}} (hiz), 13 ~{{B5}} (hiz), 14 ~{{B4}} (hiz), 15 ~{{B3}} (hiz), 16 ~{{B2}} (hiz), 17 ~{{B1}} (hiz), 18 ~{{B0}} (hiz), 19 ~{{G2}} (in), 20 VCC (power) hidden
text: &; EN

## 74LS541
designator *  value 74LS541
pins: 1 ~{{G1}} (in), 2 A0 (hiz), 3 A1 (hiz), 4 A2 (hiz), 5 A3 (hiz), 6 A4 (hiz), 7 A5 (hiz), 8 A6 (hiz), 9 A7 (hiz), 10 GND (power) hidden, 11 B7 (hiz), 12 B6 (hiz), 13 B5 (hiz), 14 B4 (hiz), 15 B3 (hiz), 16 B2 (hiz), 17 B1 (hiz), 18 B0 (hiz), 19 ~{{G2}} (in), 20 VCC (power) hidden
text: &; EN

## 74LS590
designator *  value 74LS590
pins: 1 Qb (out), 2 Qc (out), 3 Qd (out), 4 Qe (out), 5 Qf (out), 6 Qg (out), 7 Qh (out), 8 Gnd (power) hidden, 9 ~{{RCO}} (out), 10 ~{{CCLR}} (in), 11 CCK (in), 12 ~{{CCKEN}} (in), 13 RCK (in), 14 ~{{EN}} (in), 15 Qa (out), 16 Vcc (power) hidden

## 74LS591
designator *  value 74LS591
pins: 1 Qb (out), 2 Qc (out), 3 Qd (out), 4 Qe (out), 5 Qf (out), 6 Qg (out), 7 Qh (out), 8 Gnd (power), 9 ~{{RCO}} (out), 10 ~{{CCLR}} (in), 11 CCK (in), 12 ~{{CCKEN}} (in), 13 RCK (in), 14 ~{{EN}} (in), 15 Qa (out), 16 Vcc (power)

## 74LS594
designator *  value 74LS594
pins: 1 QB (hiz), 2 QC (hiz), 3 QD (hiz), 4 QE (hiz), 5 QF (hiz), 6 QG (hiz), 7 QH (hiz), 8 GND (power) hidden, 9 QHser (out), 10 ~{{SCLR}} (in), 11 SCLK (in), 12 RCLK (in), 13 ~{{G}} (in), 14 SER (in), 15 QA (hiz), 16 VCC (power) hidden

## 74LS595
designator *  value 74LS595
pins: 1 QB (hiz), 2 QC (hiz), 3 QD (hiz), 4 QE (hiz), 5 QF (hiz), 6 QG (hiz), 7 QH (hiz), 8 GND (power) hidden, 9 QHser (out), 10 ~{{SCLR}} (in), 11 SCLK (in), 12 RCLK (in), 13 ~{{G}} (in), 14 SER (in), 15 QA (hiz), 16 VCC (power) hidden

## 74LS596
designator *  value 74LS596
pins: 1 QB (hiz), 2 QC (hiz), 3 QD (hiz), 4 QE (hiz), 5 QF (hiz), 6 QG (hiz), 7 QH (hiz), 8 GND (power) hidden, 9 QHser (out), 10 ~{{SCLR}} (in), 11 SCLK (in), 12 RCLK (in), 13 ~{{G}} (in), 14 SER (in), 15 QA (hiz), 16 VCC (power) hidden

## 74LS597
designator *  value 74LS597
pins: 1 B (in), 2 C (in), 3 D (in), 4 E (in), 5 F (in), 6 G (in), 7 H (in), 8 GND (power) hidden, 9 QH (hiz), 10 ~{{R}} (in), 11 SCK (in), 12 CLK (in), 13 ~{{SLoad}} (in), 14 SER (in), 15 A (in), 16 VCC (power) hidden

## 74LS599
designator *  value 74LS599
pins: 1 QB (hiz), 2 QC (hiz), 3 QD (hiz), 4 QE (hiz), 5 QF (hiz), 6 QG (hiz), 7 QH (hiz), 8 GND (power) hidden, 9 QHser (out), 10 ~{{SCLR}} (in), 11 SCLK (in), 12 RCLK (in), 13 ~{{G}} (in), 14 SER (in), 15 QA (hiz), 16 VCC (power) hidden

## 74LS620
designator *  value 74LS620
pins: 1 GAB (in), 2 A0 (hiz), 3 A1 (hiz), 4 A2 (hiz), 5 A3 (hiz), 6 A4 (hiz), 7 A5 (hiz), 8 A6 (hiz), 9 A7 (hiz), 10 GND (power) hidden, 11 ~{{B7}} (hiz), 12 ~{{B6}} (hiz), 13 ~{{B5}} (hiz), 14 ~{{B4}} (hiz), 15 ~{{B3}} (hiz), 16 ~{{B2}} (hiz), 17 ~{{B1}} (hiz), 18 ~{{B0}} (hiz), 19 ~{{GBA}} (in), 20 VCC (power) hidden

## 74LS621
designator *  value 74LS621
pins: 1 GAB (in), 2 A0 (hiz), 3 A1 (hiz), 4 A2 (hiz), 5 A3 (hiz), 6 A4 (hiz), 7 A5 (hiz), 8 A6 (hiz), 9 A7 (hiz), 10 GND (power) hidden, 11 B7 (hiz), 12 B6 (hiz), 13 B5 (hiz), 14 B4 (hiz), 15 B3 (hiz), 16 B2 (hiz), 17 B1 (hiz), 18 B0 (hiz), 19 ~{{GBA}} (in), 20 VCC (power) hidden

## 74LS622
designator *  value 74LS622
pins: 1 GAB (in), 2 A0 (hiz), 3 A1 (hiz), 4 A2 (hiz), 5 A3 (hiz), 6 A4 (hiz), 7 A5 (hiz), 8 A6 (hiz), 9 A7 (hiz), 10 GND (power) hidden, 11 ~{{B7}} (hiz), 12 ~{{B6}} (hiz), 13 ~{{B5}} (hiz), 14 ~{{B4}} (hiz), 15 ~{{B3}} (hiz), 16 ~{{B2}} (hiz), 17 ~{{B1}} (hiz), 18 ~{{B0}} (hiz), 19 ~{{GBA}} (in), 20 VCC (power) hidden

## 74LS623
designator *  value 74LS623
pins: 1 GAB (in), 2 A0 (hiz), 3 A1 (hiz), 4 A2 (hiz), 5 A3 (hiz), 6 A4 (hiz), 7 A5 (hiz), 8 A6 (hiz), 9 A7 (hiz), 10 GND (power) hidden, 11 B7 (hiz), 12 B6 (hiz), 13 B5 (hiz), 14 B4 (hiz), 15 B3 (hiz), 16 B2 (hiz), 17 B1 (hiz), 18 B0 (hiz), 19 ~{{GBA}} (in), 20 VCC (power) hidden

## 74LS638
designator *  value 74LS638
pins: 1 ~{{DIR}} (in), 2 A0 (hiz), 3 A1 (hiz), 4 A2 (hiz), 5 A3 (hiz), 6 A4 (hiz), 7 A5 (hiz), 8 A6 (hiz), 9 A7 (hiz), 10 GND (power) hidden, 11 ~{{B7}} (hiz), 12 ~{{B6}} (hiz), 13 ~{{B5}} (hiz), 14 ~{{B4}} (hiz), 15 ~{{B3}} (hiz), 16 ~{{B2}} (hiz), 17 ~{{B1}} (hiz), 18 ~{{B0}} (hiz), 19 ~{{G}} (in), 20 VCC (power) hidden

## 74LS639
designator *  value 74LS639
pins: 1 ~{{DIR}} (in), 2 A0 (hiz), 3 A1 (hiz), 4 A2 (hiz), 5 A3 (hiz), 6 A4 (hiz), 7 A5 (hiz), 8 A6 (hiz), 9 A7 (hiz), 10 GND (power) hidden, 11 ~{{B7}} (hiz), 12 ~{{B6}} (hiz), 13 ~{{B5}} (hiz), 14 ~{{B4}} (hiz), 15 ~{{B3}} (hiz), 16 ~{{B2}} (hiz), 17 ~{{B1}} (hiz), 18 ~{{B0}} (hiz), 19 ~{{G}} (in), 20 VCC (power) hidden

## 74LS640
designator *  value 74LS640
pins: 1 GAB (in), 2 A0 (hiz), 3 A1 (hiz), 4 A2 (hiz), 5 A3 (hiz), 6 A4 (hiz), 7 A5 (hiz), 8 A6 (hiz), 9 A7 (hiz), 10 GND (power) hidden, 11 ~{{B7}} (hiz), 12 ~{{B6}} (hiz), 13 ~{{B5}} (hiz), 14 ~{{B4}} (hiz), 15 ~{{B3}} (hiz), 16 ~{{B2}} (hiz), 17 ~{{B1}} (hiz), 18 ~{{B0}} (hiz), 19 ~{{GBA}} (in), 20 VCC (power) hidden

## 74LS641
designator *  value 74LS641
pins: 1 GAB (in), 2 A0 (hiz), 3 A1 (hiz), 4 A2 (hiz), 5 A3 (hiz), 6 A4 (hiz), 7 A5 (hiz), 8 A6 (hiz), 9 A7 (hiz), 10 GND (power) hidden, 11 B7 (hiz), 12 B6 (hiz), 13 B5 (hiz), 14 B4 (hiz), 15 B3 (hiz), 16 B2 (hiz), 17 B1 (hiz), 18 B0 (hiz), 19 ~{{GBA}} (in), 20 VCC (power) hidden

## 74LS642
designator *  value 74LS642
pins: 1 GAB (in), 2 A0 (hiz), 3 A1 (hiz), 4 A2 (hiz), 5 A3 (hiz), 6 A4 (hiz), 7 A5 (hiz), 8 A6 (hiz), 9 A7 (hiz), 10 GND (power) hidden, 11 ~{{B7}} (hiz), 12 ~{{B6}} (hiz), 13 ~{{B5}} (hiz), 14 ~{{B4}} (hiz), 15 ~{{B3}} (hiz), 16 ~{{B2}} (hiz), 17 ~{{B1}} (hiz), 18 ~{{B0}} (hiz), 19 ~{{GBA}} (in), 20 VCC (power) hidden

## 74LS645
designator *  value 74LS645
pins: 1 GAB (in), 2 A0 (hiz), 3 A1 (hiz), 4 A2 (hiz), 5 A3 (hiz), 6 A4 (hiz), 7 A5 (hiz), 8 A6 (hiz), 9 A7 (hiz), 10 GND (power) hidden, 11 B7 (hiz), 12 B6 (hiz), 13 B5 (hiz), 14 B4 (hiz), 15 B3 (hiz), 16 B2 (hiz), 17 B1 (hiz), 18 B0 (hiz), 19 ~{{GBA}} (in), 20 VCC (power) hidden

## 74LS668
designator *  value 74LS668
pins: 1 U/D (in), 2 CK (in), 3 P0 (in), 4 P1 (in), 5 P2 (in), 6 P3 (in), 7 ~{{ENP}} (in), 8 GND (power) hidden, 9 ~{{LD}} (in), 10 ~{{ENP}} (in), 11 Q3 (out), 12 Q2 (out), 13 Q1 (out), 14 Q0 (out), 15 ~{{Tc}} (out), 16 VCC (power) hidden

## 74LS669
designator *  value 74LS669
pins: 1 U/D (in), 2 CK (in), 3 P0 (in), 4 P1 (in), 5 P2 (in), 6 P3 (in), 7 ~{{ENP}} (in), 8 GND (power) hidden, 9 ~{{LD}} (in), 10 ~{{ENP}} (in), 11 Q3 (out), 12 Q2 (out), 13 Q1 (out), 14 Q0 (out), 15 ~{{Tc}} (out), 16 VCC (power) hidden

## 74LS670
designator *  value 74LS670
pins: 1 D2 (in), 2 D3 (in), 3 D4 (in), 4 Rb (in), 5 Ra (in), 6 Q4 (hiz), 7 Q3 (hiz), 8 GND (power) hidden, 9 Q2 (hiz), 10 Q1 (hiz), 11 ~{{RD}} (in), 12 ~{{WR}} (in), 13 Wb (in), 14 Wa (in), 15 D1 (in), 16 VCC (power) hidden
text: RAM4x4

## 74LS682
designator *  value 74LS682
pins: 1 ~{{P>Q}} (out), 2 P0 (in), 3 Q0 (in), 4 P1 (in), 5 Q1 (in), 6 P2 (in), 7 Q2 (in), 8 P3 (in), 9 Q3 (in), 10 Gnd (power) hidden, 11 P4 (in), 12 Q4 (in), 13 P5 (in), 14 Q5 (in), 15 P6 (in), 16 Q6 (in), 17 P7 (in), 18 Q7 (in), 19 ~{{P=Q}} (out), 20 Vcc (power) hidden
text: P; COMP; Q

## 74LS683
designator *  value 74LS683
pins: 1 ~{{P>Q}} (out), 2 P0 (in), 3 Q0 (in), 4 P1 (in), 5 Q1 (in), 6 P2 (in), 7 Q2 (in), 8 P3 (in), 9 Q3 (in), 10 Gnd (power) hidden, 11 P4 (in), 12 Q4 (in), 13 P5 (in), 14 Q5 (in), 15 P6 (in), 16 Q6 (in), 17 P7 (in), 18 Q7 (in), 19 ~{{P=Q}} (out), 20 Vcc (power) hidden
text: P; COMP; Q

## 74LS684
designator *  value 74LS684
pins: 1 ~{{P>Q}} (out), 2 P0 (in), 3 Q0 (in), 4 P1 (in), 5 Q1 (in), 6 P2 (in), 7 Q2 (in), 8 P3 (in), 9 Q3 (in), 10 Gnd (power) hidden, 11 P4 (in), 12 Q4 (in), 13 P5 (in), 14 Q5 (in), 15 P6 (in), 16 Q6 (in), 17 P7 (in), 18 Q7 (in), 19 ~{{P=Q}} (out), 20 Vcc (power) hidden
text: P; COMP; Q

## 74LS685
designator *  value 74LS685
pins: 1 ~{{P>Q}} (out), 2 P0 (in), 3 Q0 (in), 4 P1 (in), 5 Q1 (in), 6 P2 (in), 7 Q2 (in), 8 P3 (in), 9 Q3 (in), 10 Gnd (power) hidden, 11 P4 (in), 12 Q4 (in), 13 P5 (in), 14 Q5 (in), 15 P6 (in), 16 Q6 (in), 17 P7 (in), 18 Q7 (in), 19 ~{{P=Q}} (out), 20 Vcc (power) hidden
text: P; COMP; Q

## 74LS686
designator *  value 74LS686
pins: 1 ~{{P>Q}} (out), 2 ~{{G1}} (in), 3 P0 (in), 4 Q0 (in), 5 P1 (in), 6 Q1 (in), 8 P2 (in), 9 Q2 (in), 10 P3 (in), 11 Q3 (in), 12 Gnd (power) hidden, 13 P4 (in), 14 Q4 (in), 15 P5 (in), 16 Q5 (in), 17 P6 (in), 18 Q6 (in), 20 P7 (in), 21 Q7 (in), 22 ~{{P=Q}} (out), 23 ~{{G2}} (in), 24 Vcc (power) hidden
text: P; COMP; Q

## 74LS687
designator *  value 74LS687
pins: 1 ~{{P>Q}} (out), 2 ~{{G1}} (in), 3 P0 (in), 4 Q0 (in), 5 P1 (in), 6 Q1 (in), 8 P2 (in), 9 Q2 (in), 10 P3 (in), 11 Q3 (in), 12 Gnd (power) hidden, 13 P4 (in), 14 Q4 (in), 15 P5 (in), 16 Q5 (in), 17 P6 (in), 18 Q6 (in), 20 P7 (in), 21 Q7 (in), 22 ~{{P=Q}} (out), 23 ~{{G2}} (in), 24 Vcc (power) hidden
text: P; COMP; Q

## 74LS688
designator *  value 74LS688
pins: 1 ~{{G1}} (out), 2 P0 (in), 3 Q0 (in), 4 P1 (in), 5 Q1 (in), 6 P2 (in), 7 Q2 (in), 8 P3 (in), 9 Q3 (in), 10 Gnd (power) hidden, 11 P4 (in), 12 Q4 (in), 13 P5 (in), 14 Q5 (in), 15 P6 (in), 16 Q6 (in), 17 P7 (in), 18 Q7 (in), 19 ~{{P=Q}} (out), 20 Vcc (power) hidden
text: COMP; P; Q

## 74LS689
designator *  value 74LS689
pins: 1 ~{{G1}} (out), 2 P0 (in), 3 Q0 (in), 4 P1 (in), 5 Q1 (in), 6 P2 (in), 7 Q2 (in), 8 P3 (in), 9 Q3 (in), 10 Gnd (power) hidden, 11 P4 (in), 12 Q4 (in), 13 P5 (in), 14 Q5 (in), 15 P6 (in), 16 Q6 (in), 17 P7 (in), 18 Q7 (in), 19 ~{{P=Q}} (out), 20 Vcc (power) hidden
text: P; COMP; Q

## 74S140
designator *  value 74S140
part A pins: 1 (in), 2 (in), 4 (in), 5 (in), 6 (out), 7 Gnd (power) hidden, 14 Vcc (power) hidden
part B pins: 7 Gnd (power) hidden, 8 (out), 9 (in), 10 (in), 12 (in), 13 (in), 14 Vcc (power) hidden
part A text: &
part B text: &

## 7400
designator *  value 7400
part A pins: 1 (in), 2 (in), 3 (out), 7 GND (power) hidden, 14 Vcc (power) hidden
part B pins: 4 (in), 5 (in), 6 (out), 7 GND (power) hidden, 14 Vcc (power) hidden
part C pins: 7 GND (power) hidden, 8 (out), 9 (in), 10 (in), 14 Vcc (power) hidden
part D pins: 7 GND (power) hidden, 11 (out), 12 (in), 13 (in), 14 Vcc (power) hidden
part A text: &
part B text: &
part C text: &
part D text: &

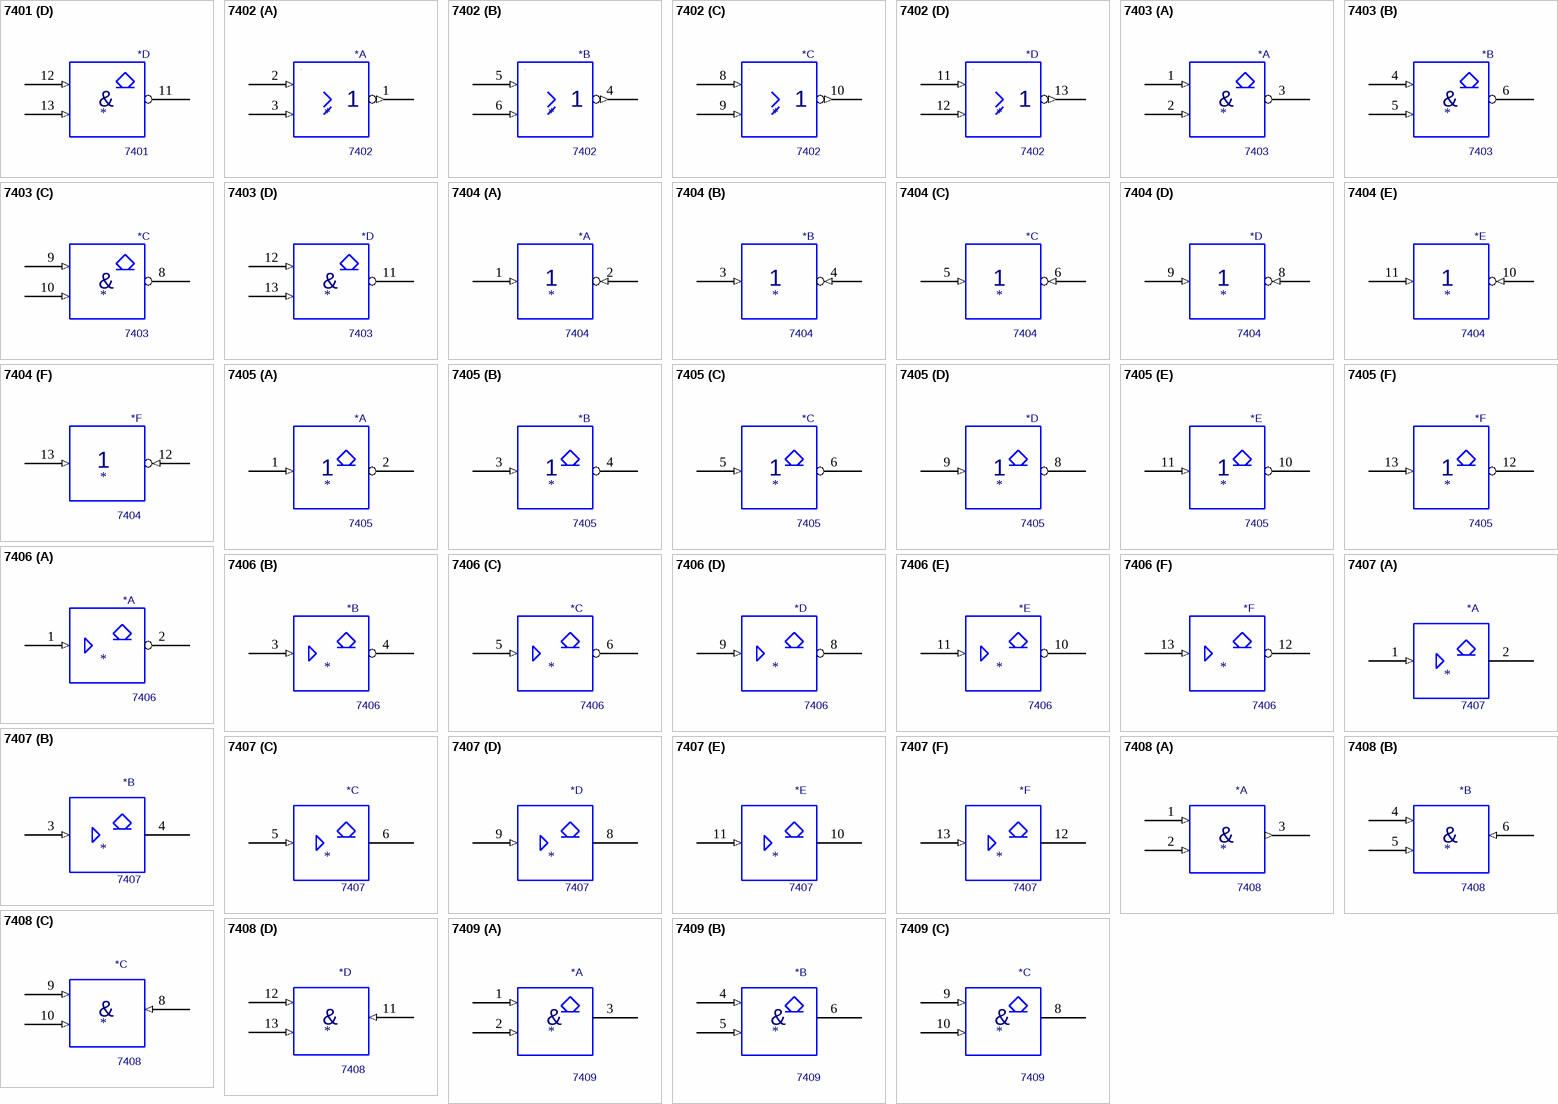
[diagram p4: symbols 7401 to 7409]

## 7401
designator *  value 7401
part A pins: 1 (in), 2 (in), 3 (oc), 7 GND (power) hidden, 14 Vcc (power) hidden
part B pins: 4 (in), 5 (in), 6 (oc), 7 GND (power) hidden, 14 Vcc (power) hidden
part C pins: 7 GND (power) hidden, 8 (oc), 9 (in), 10 (in), 14 Vcc (power) hidden
part D pins: 7 GND (power) hidden, 11 (oc), 12 (in), 13 (in), 14 Vcc (power) hidden
part A text: &
part B text: &
part C text: &
part D text: &

## 7402
designator *  value 7402
part A pins: 1 (out), 2 (in), 3 (in), 7 GND (power) hidden, 14 VCC (power) hidden
part B pins: 4 (out), 5 (in), 6 (in), 7 GND (power) hidden, 14 VCC (power) hidden
part C pins: 7 GND (power) hidden, 8 (in), 9 (in), 10 (out), 14 VCC (power) hidden
part D pins: 7 GND (power) hidden, 11 (in), 12 (in), 13 (out), 14 VCC (power) hidden

## 7403
designator *  value 7403
part A pins: 1 (in), 2 (in), 3 (oc), 7 GND (power) hidden, 14 Vcc (power) hidden
part B pins: 4 (in), 5 (in), 6 (oc), 7 GND (power) hidden, 14 Vcc (power) hidden
part C pins: 7 GND (power) hidden, 8 (oc), 9 (in), 10 (in), 14 Vcc (power) hidden
part D pins: 7 GND (power) hidden, 11 (oc), 12 (in), 13 (in), 14 Vcc (power) hidden
part A text: &
part B text: &
part C text: &
part D text: &

## 7404
designator *  value 7404
part A pins: 1 (in), 2 (in), 7 Gnd (power) hidden, 14 Vcc (power) hidden
part B pins: 3 (in), 4 (in), 7 Gnd (power) hidden, 14 Vcc (power) hidden
part C pins: 5 (in), 6 (in), 7 Gnd (power) hidden, 14 Vcc (power) hidden
part D pins: 7 Gnd (power) hidden, 8 (in), 9 (in), 14 Vcc (power) hidden
part E pins: 7 Gnd (power) hidden, 10 (in), 11 (in), 14 Vcc (power) hidden
part F pins: 7 Gnd (power) hidden, 12 (in), 13 (in), 14 Vcc (power) hidden

## 7405
designator *  value 7405
part A pins: 1 (in), 2 (oc), 7 Gnd (in) hidden, 14 Vcc (in) hidden
part B pins: 3 (in), 4 (oc), 7 Gnd (in) hidden, 14 Vcc (in) hidden
part C pins: 5 (in), 6 (oc), 7 Gnd (in) hidden, 14 Vcc (in) hidden
part D pins: 7 Gnd (in) hidden, 8 (oc), 9 (in), 14 Vcc (in) hidden
part E pins: 7 Gnd (in) hidden, 10 (oc), 11 (in), 14 Vcc (in) hidden
part F pins: 7 Gnd (in) hidden, 12 (oc), 13 (in), 14 Vcc (in) hidden

## 7406
designator *  value 7406
part A pins: 1 (in), 2 (oc), 7 Gnd (power) hidden, 14 Vcc (power) hidden
part B pins: 3 (in), 4 (oc), 7 Gnd (power) hidden, 14 Vcc (power) hidden
part C pins: 5 (in), 6 (oc), 7 Gnd (power) hidden, 14 Vcc (power) hidden
part D pins: 7 Gnd (power) hidden, 8 (oc), 9 (in), 14 Vcc (power) hidden
part E pins: 7 Gnd (power) hidden, 10 (oc), 11 (in), 14 Vcc (power) hidden
part F pins: 7 Gnd (power) hidden, 12 (oc), 13 (in), 14 Vcc (power) hidden

## 7407
designator *  value 7407
part A pins: 1 (in), 2 (oc), 7 Gnd (power) hidden, 14 Vcc (power) hidden
part B pins: 3 (in), 4 (oc), 7 Gnd (power) hidden, 14 Vcc (power) hidden
part C pins: 5 (in), 6 (oc), 7 Gnd (power) hidden, 14 Vcc (power) hidden
part D pins: 7 Gnd (power) hidden, 8 (oc), 9 (in), 14 Vcc (power) hidden
part E pins: 7 Gnd (power) hidden, 10 (oc), 11 (in), 14 Vcc (power) hidden
part F pins: 7 Gnd (power) hidden, 12 (oc), 13 (in), 14 Vcc (power) hidden

## 7408
designator *  value 7408
part A pins: 1 (in), 2 (in), 3 (out), 7 Gnd (power) hidden, 14 Vcc (power) hidden
part B pins: 4 (in), 5 (in), 6 (in), 7 Gnd (power) hidden, 14 Vcc (power) hidden
part C pins: 7 Gnd (power) hidden, 8 (in), 9 (in), 10 (in), 14 Vcc (power) hidden
part D pins: 7 Gnd (power) hidden, 11 (in), 12 (in), 13 (in), 14 Vcc (power) hidden
part A text: &
part B text: &
part C text: &
part D text: &

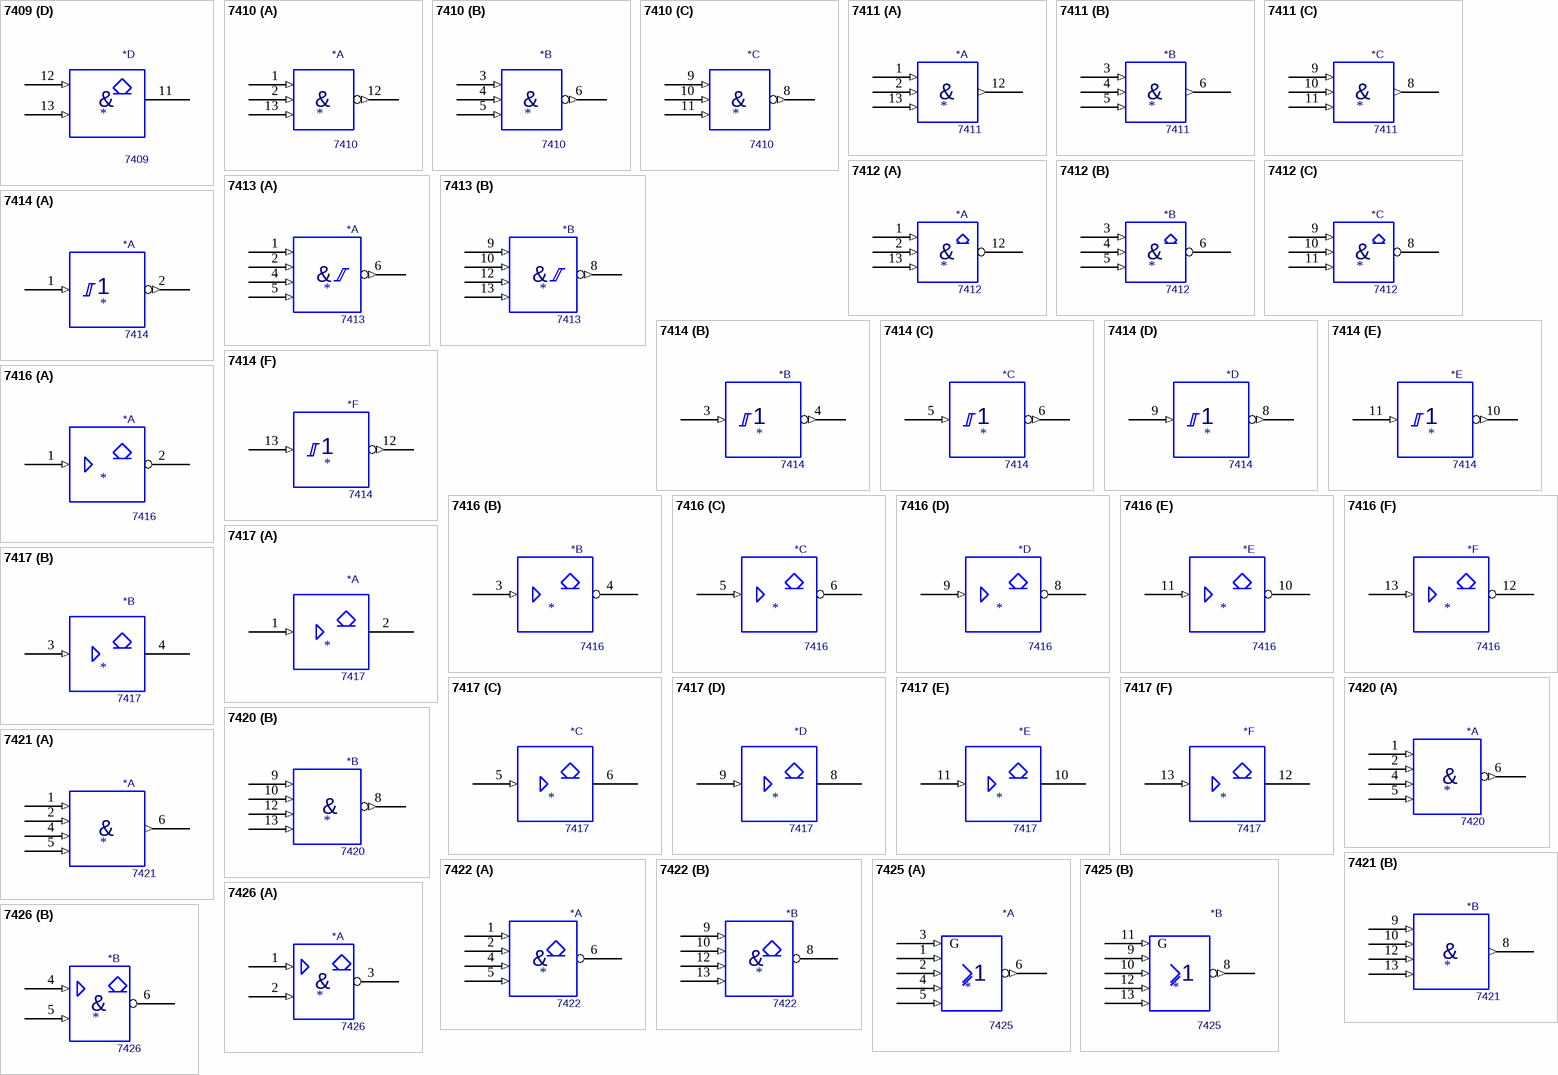
[diagram p5: symbols 7409 to 7426]

## 7409
designator *  value 7409
part A pins: 1 (in), 2 (in), 3 (oc), 7 Gnd (power) hidden, 14 Vcc (power) hidden
part B pins: 4 (in), 5 (in), 6 (oc), 7 Gnd (power) hidden, 14 Vcc (power) hidden
part C pins: 7 Gnd (power) hidden, 8 (oc), 9 (in), 10 (in), 14 Vcc (power) hidden
part D pins: 7 Gnd (power) hidden, 11 (oc), 12 (in), 13 (in), 14 Vcc (power) hidden
part A text: &
part B text: &
part C text: &
part D text: &

## 7410
designator *  value 7410
part A pins: 1 (in), 2 (in), 7 Gnd (power) hidden, 12 (out), 13 (in), 14 Vcc (power) hidden
part B pins: 3 (in), 4 (in), 5 (in), 6 (out), 7 Gnd (power) hidden, 14 Vcc (power) hidden
part C pins: 7 Gnd (power) hidden, 8 (out), 9 (in), 10 (in), 11 (in), 14 Vcc (power) hidden
part A text: &
part B text: &
part C text: &

## 7411
designator *  value 7411
part A pins: 1 (in), 2 (in), 7 Gnd (power) hidden, 12 (out), 13 (in), 14 Vcc (power) hidden
part B pins: 3 (in), 4 (in), 5 (in), 6 (out), 7 Gnd (power) hidden, 14 Vcc (power) hidden
part C pins: 7 Gnd (power) hidden, 8 (out), 9 (in), 10 (in), 11 (in), 14 Vcc (power) hidden
part A text: &
part B text: &
part C text: &

## 7412
designator *  value 7412
part A pins: 1 (in), 2 (in), 7 Gnd (power) hidden, 12 (oc), 13 (in), 14 Vcc (power) hidden
part B pins: 3 (in), 4 (in), 5 (in), 6 (oc), 7 Gnd (power) hidden, 14 Vcc (power) hidden
part C pins: 7 Gnd (power) hidden, 8 (oc), 9 (in), 10 (in), 11 (in), 14 Vcc (power) hidden
part A text: &
part B text: &
part C text: &

## 7413
designator *  value 7413
part A pins: 1 (in), 2 (in), 4 (in), 5 (in), 6 (out), 7 Vss (power) hidden, 14 Vdd (power) hidden
part B pins: 7 Vss (power) hidden, 8 (out), 9 (in), 10 (in), 12 (in), 13 (in), 14 Vdd (power) hidden
part A text: &
part B text: &

## 7414
designator *  value 7414
part A pins: 1 (in), 2 (out), 7 Gnd (power) hidden, 14 Vcc (power) hidden
part B pins: 3 (in), 4 (out), 7 Gnd (power) hidden, 14 Vcc (power) hidden
part C pins: 5 (in), 6 (out), 7 Gnd (power) hidden, 14 Vcc (power) hidden
part D pins: 7 Gnd (power) hidden, 8 (out), 9 (in), 14 Vcc (power) hidden
part E pins: 7 Gnd (power) hidden, 10 (out), 11 (in), 14 Vcc (power) hidden
part F pins: 7 Gnd (power) hidden, 12 (out), 13 (in), 14 Vcc (power) hidden

## 7416
designator *  value 7416
part A pins: 1 (in), 2 (oc), 7 Gnd (power) hidden, 14 Vcc (power) hidden
part B pins: 3 (in), 4 (oc), 7 Gnd (power) hidden, 14 Vcc (power) hidden
part C pins: 5 (in), 6 (oc), 7 Gnd (power) hidden, 14 Vcc (power) hidden
part D pins: 7 Gnd (power) hidden, 8 (oc), 9 (in), 14 Vcc (power) hidden
part E pins: 7 Gnd (power) hidden, 10 (oc), 11 (in), 14 Vcc (power) hidden
part F pins: 7 Gnd (power) hidden, 12 (oc), 13 (in), 14 Vcc (power) hidden

## 7417
designator *  value 7417
part A pins: 1 (in), 2 (oc), 7 Gnd (power) hidden, 14 Vcc (power) hidden
part B pins: 3 (in), 4 (oc), 7 Gnd (power) hidden, 14 Vcc (power) hidden
part C pins: 5 (in), 6 (oc), 7 Gnd (power) hidden, 14 Vcc (power) hidden
part D pins: 7 Gnd (power) hidden, 8 (oc), 9 (in), 14 Vcc (power) hidden
part E pins: 7 Gnd (power) hidden, 10 (oc), 11 (in), 14 Vcc (power) hidden
part F pins: 7 Gnd (power) hidden, 12 (oc), 13 (in), 14 Vcc (power) hidden

## 7420
designator *  value 7420
part A pins: 1 (in), 2 (in), 4 (in), 5 (in), 6 (out), 7 Gnd (power) hidden, 14 Vcc (power) hidden
part B pins: 7 Gnd (power) hidden, 8 (out), 9 (in), 10 (in), 12 (in), 13 (in), 14 Vcc (power) hidden
part A text: &
part B text: &

## 7421
designator *  value 7421
part A pins: 1 (in), 2 (in), 4 (in), 5 (in), 6 (out), 7 Gnd (power) hidden, 14 Vcc (power) hidden
part B pins: 7 Gnd (power) hidden, 8 (out), 9 (in), 10 (in), 12 (in), 13 (in), 14 Vcc (power) hidden
part A text: &
part B text: &

## 7422
designator *  value 7422
part A pins: 1 (in), 2 (in), 4 (in), 5 (in), 6 (oc), 7 Gnd (power) hidden, 14 Vcc (power) hidden
part B pins: 7 Gnd (power) hidden, 8 (oc), 9 (in), 10 (in), 12 (in), 13 (in), 14 Vcc (power) hidden
part A text: &
part B text: &

## 7425
designator *  value 7425
part A pins: 1 (in), 2 (in), 3 G (in), 4 (in), 5 (in), 6 (out), 7 Gnd (power) hidden, 14 Vcc (power) hidden
part B pins: 7 Gnd (power) hidden, 8 (out), 9 (in), 10 (in), 11 G (in), 12 (in), 13 (in), 14 Vcc (power) hidden

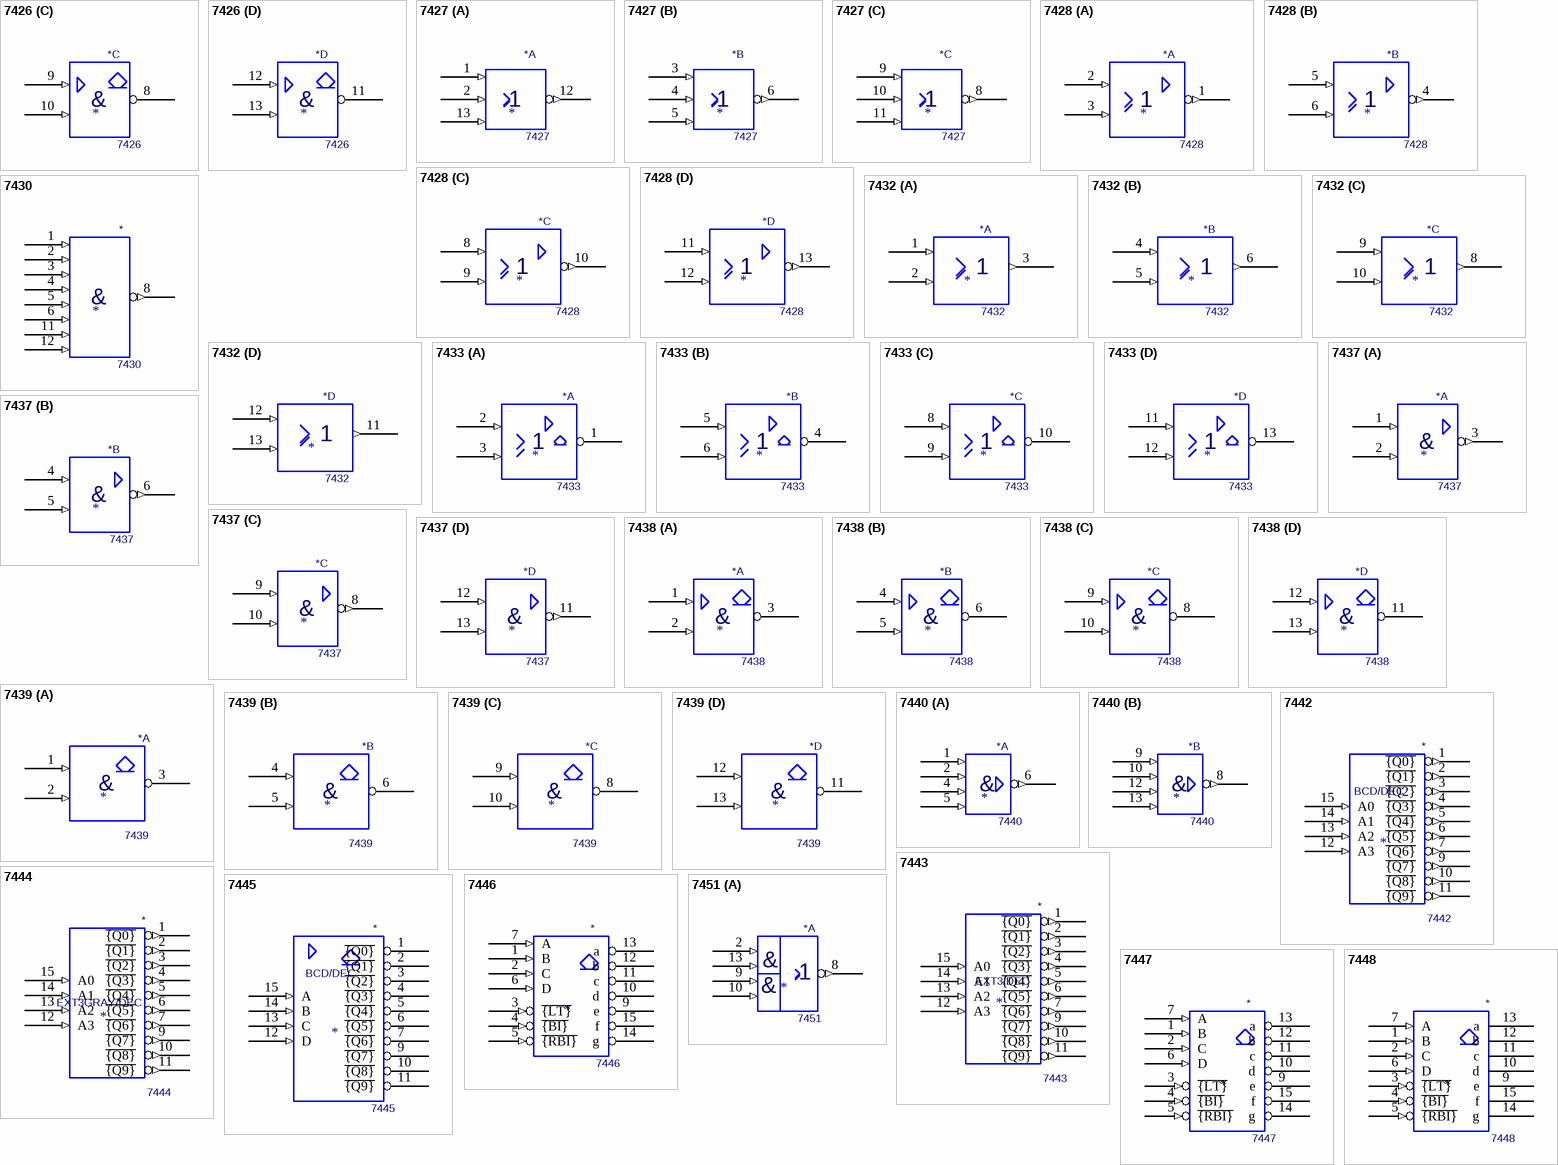
[diagram p6: symbols 7426 to 7451]

## 7426
designator *  value 7426
part A pins: 1 (in), 2 (in), 3 (oc), 7 GND (power) hidden, 14 Vcc (power) hidden
part B pins: 4 (in), 5 (in), 6 (oc), 7 GND (power) hidden, 14 Vcc (power) hidden
part C pins: 7 GND (power) hidden, 8 (oc), 9 (in), 10 (in), 14 Vcc (power) hidden
part D pins: 7 GND (power) hidden, 11 (oc), 12 (in), 13 (in), 14 Vcc (power) hidden
part A text: &
part B text: &
part C text: &
part D text: &

## 7427
designator *  value 7427
part A pins: 1 (in), 2 (in), 7 Gnd (power) hidden, 12 (out), 13 (in), 14 Vcc (power) hidden
part B pins: 3 (in), 4 (in), 5 (in), 6 (out), 7 Gnd (power) hidden, 14 Vcc (power) hidden
part C pins: 7 Gnd (power) hidden, 8 (out), 9 (in), 10 (in), 11 (in), 14 Vcc (power) hidden

## 7428
designator *  value 7428
part A pins: 1 (out), 2 (in), 3 (in), 7 Gnd (power) hidden, 14 Vcc (power) hidden
part B pins: 4 (out), 5 (in), 6 (in), 7 Gnd (power) hidden, 14 Vcc (power) hidden
part C pins: 7 Gnd (power) hidden, 8 (in), 9 (in), 10 (out), 14 Vcc (power) hidden
part D pins: 7 Gnd (power) hidden, 11 (in), 12 (in), 13 (out), 14 Vcc (power) hidden

## 7430
designator *  value 7430
pins: 1 (in), 2 (in), 3 (in), 4 (in), 5 (in), 6 (in), 7 Gnd (power) hidden, 8 (out), 11 (in), 12 (in), 14 Vcc (power) hidden
text: &

## 7432
designator *  value 7432
part A pins: 1 (in), 2 (in), 3 (out), 7 Gnd (power) hidden, 14 Vcc (power) hidden
part B pins: 4 (in), 5 (in), 6 (out), 7 Gnd (power) hidden, 14 Vcc (power) hidden
part C pins: 7 Gnd (power) hidden, 8 (out), 9 (in), 10 (in), 14 Vcc (power) hidden
part D pins: 7 Gnd (power) hidden, 11 (out), 12 (in), 13 (in), 14 Vcc (power) hidden

## 7433
designator *  value 7433
part A pins: 1 (oc), 2 (in), 3 (in), 7 GND (power) hidden, 14 VCC (power) hidden
part B pins: 4 (oc), 5 (in), 6 (in), 7 GND (power) hidden, 14 VCC (power) hidden
part C pins: 7 GND (power) hidden, 8 (in), 9 (in), 10 (oc), 14 VCC (power) hidden
part D pins: 7 GND (power) hidden, 11 (in), 12 (in), 13 (oc), 14 VCC (power) hidden

## 7437
designator *  value 7437
part A pins: 1 (in), 2 (in), 3 (out), 7 GND (power) hidden, 14 Vcc (power) hidden
part B pins: 4 (in), 5 (in), 6 (out), 7 GND (power) hidden, 14 Vcc (power) hidden
part C pins: 7 GND (power) hidden, 8 (out), 9 (in), 10 (in), 14 Vcc (power) hidden
part D pins: 7 GND (power) hidden, 11 (out), 12 (in), 13 (in), 14 Vcc (power) hidden
part A text: &
part B text: &
part C text: &
part D text: &

## 7438
designator *  value 7438
part A pins: 1 (in), 2 (in), 3 (oc), 7 GND (power) hidden, 14 Vcc (power) hidden
part B pins: 4 (in), 5 (in), 6 (oc), 7 GND (power) hidden, 14 Vcc (power) hidden
part C pins: 7 GND (power) hidden, 8 (oc), 9 (in), 10 (in), 14 Vcc (power) hidden
part D pins: 7 GND (power) hidden, 11 (oc), 12 (in), 13 (in), 14 Vcc (power) hidden
part A text: &
part B text: &
part C text: &
part D text: &

## 7439
designator *  value 7439
part A pins: 1 (in), 2 (in), 3 (oc), 7 GND (power) hidden, 14 Vcc (power) hidden
part B pins: 4 (in), 5 (in), 6 (oc), 7 GND (power) hidden, 14 Vcc (power) hidden
part C pins: 7 GND (power) hidden, 8 (oc), 9 (in), 10 (in), 14 Vcc (power) hidden
part D pins: 7 GND (power) hidden, 11 (oc), 12 (in), 13 (in), 14 Vcc (power) hidden
part A text: &
part B text: &
part C text: &
part D text: &

## 7440
designator *  value 7440
part A pins: 1 (in), 2 (in), 4 (in), 5 (in), 6 (out), 7 Gnd (power) hidden, 14 Vcc (power) hidden
part B pins: 7 Gnd (power) hidden, 8 (out), 9 (in), 10 (in), 12 (in), 13 (in), 14 Vcc (power) hidden
part A text: &
part B text: &

## 7442
designator *  value 7442
pins: 1 ~{{Q0}} (out), 2 ~{{Q1}} (out), 3 ~{{Q2}} (out), 4 ~{{Q3}} (out), 5 ~{{Q4}} (out), 6 ~{{Q5}} (out), 7 ~{{Q6}} (out), 8 GND (power) hidden, 9 ~{{Q7}} (out), 10 ~{{Q8}} (out), 11 ~{{Q9}} (out), 12 A3 (in), 13 A2 (in), 14 A1 (in), 15 A0 (in), 16 VCC (power) hidden
text: BCD/DEC

## 7443
designator *  value 7443
pins: 1 ~{{Q0}} (out), 2 ~{{Q1}} (out), 3 ~{{Q2}} (out), 4 ~{{Q3}} (out), 5 ~{{Q4}} (out), 6 ~{{Q5}} (out), 7 ~{{Q6}} (out), 8 GND (power) hidden, 9 ~{{Q7}} (out), 10 ~{{Q8}} (out), 11 ~{{Q9}} (out), 12 A3 (in), 13 A2 (in), 14 A1 (in), 15 A0 (in), 16 VCC (power) hidden
text: EXT3/DEC

## 7444
designator *  value 7444
pins: 1 ~{{Q0}} (out), 2 ~{{Q1}} (out), 3 ~{{Q2}} (out), 4 ~{{Q3}} (out), 5 ~{{Q4}} (out), 6 ~{{Q5}} (out), 7 ~{{Q6}} (out), 8 GND (power) hidden, 9 ~{{Q7}} (out), 10 ~{{Q8}} (out), 11 ~{{Q9}} (out), 12 A3 (in), 13 A2 (in), 14 A1 (in), 15 A0 (in), 16 VCC (power) hidden
text: EXT3GRAY/DEC

## 7445
designator *  value 7445
pins: 1 ~{{Q0}} (oc), 2 ~{{Q1}} (oc), 3 ~{{Q2}} (oc), 4 ~{{Q3}} (oc), 5 ~{{Q4}} (oc), 6 ~{{Q5}} (oc), 7 ~{{Q6}} (oc), 8 GND (power) hidden, 9 ~{{Q7}} (oc), 10 ~{{Q8}} (oc), 11 ~{{Q9}} (oc), 12 D (in), 13 C (in), 14 B (in), 15 A (in), 16 VCC (power) hidden
text: BCD/DEC

## 7446
designator *  value 7446
pins: 1 B (in), 2 C (in), 3 ~{{LT}} (in), 4 ~{{BI}} (in), 5 ~{{RBI}} (in), 6 D (in), 7 A (in), 8 GND (power) hidden, 9 e (oc), 10 d (oc), 11 c (oc), 12 b (oc), 13 a (oc), 14 g (oc), 15 f (oc), 16 VCC (power) hidden

## 7447
designator *  value 7447
pins: 1 B (in), 2 C (in), 3 ~{{LT}} (in), 4 ~{{BI}} (in), 5 ~{{RBI}} (in), 6 D (in), 7 A (in), 8 GND (power) hidden, 9 e (oc), 10 d (oc), 11 c (oc), 12 b (oc), 13 a (oc), 14 g (oc), 15 f (oc), 16 VCC (power) hidden

## 7448
designator *  value 7448
pins: 1 B (in), 2 C (in), 3 ~{{LT}} (in), 4 ~{{BI}} (in), 5 ~{{RBI}} (in), 6 D (in), 7 A (in), 8 GND (power) hidden, 9 e (oc), 10 d (oc), 11 c (oc), 12 b (oc), 13 a (oc), 14 g (oc), 15 f (oc), 16 VCC (power) hidden

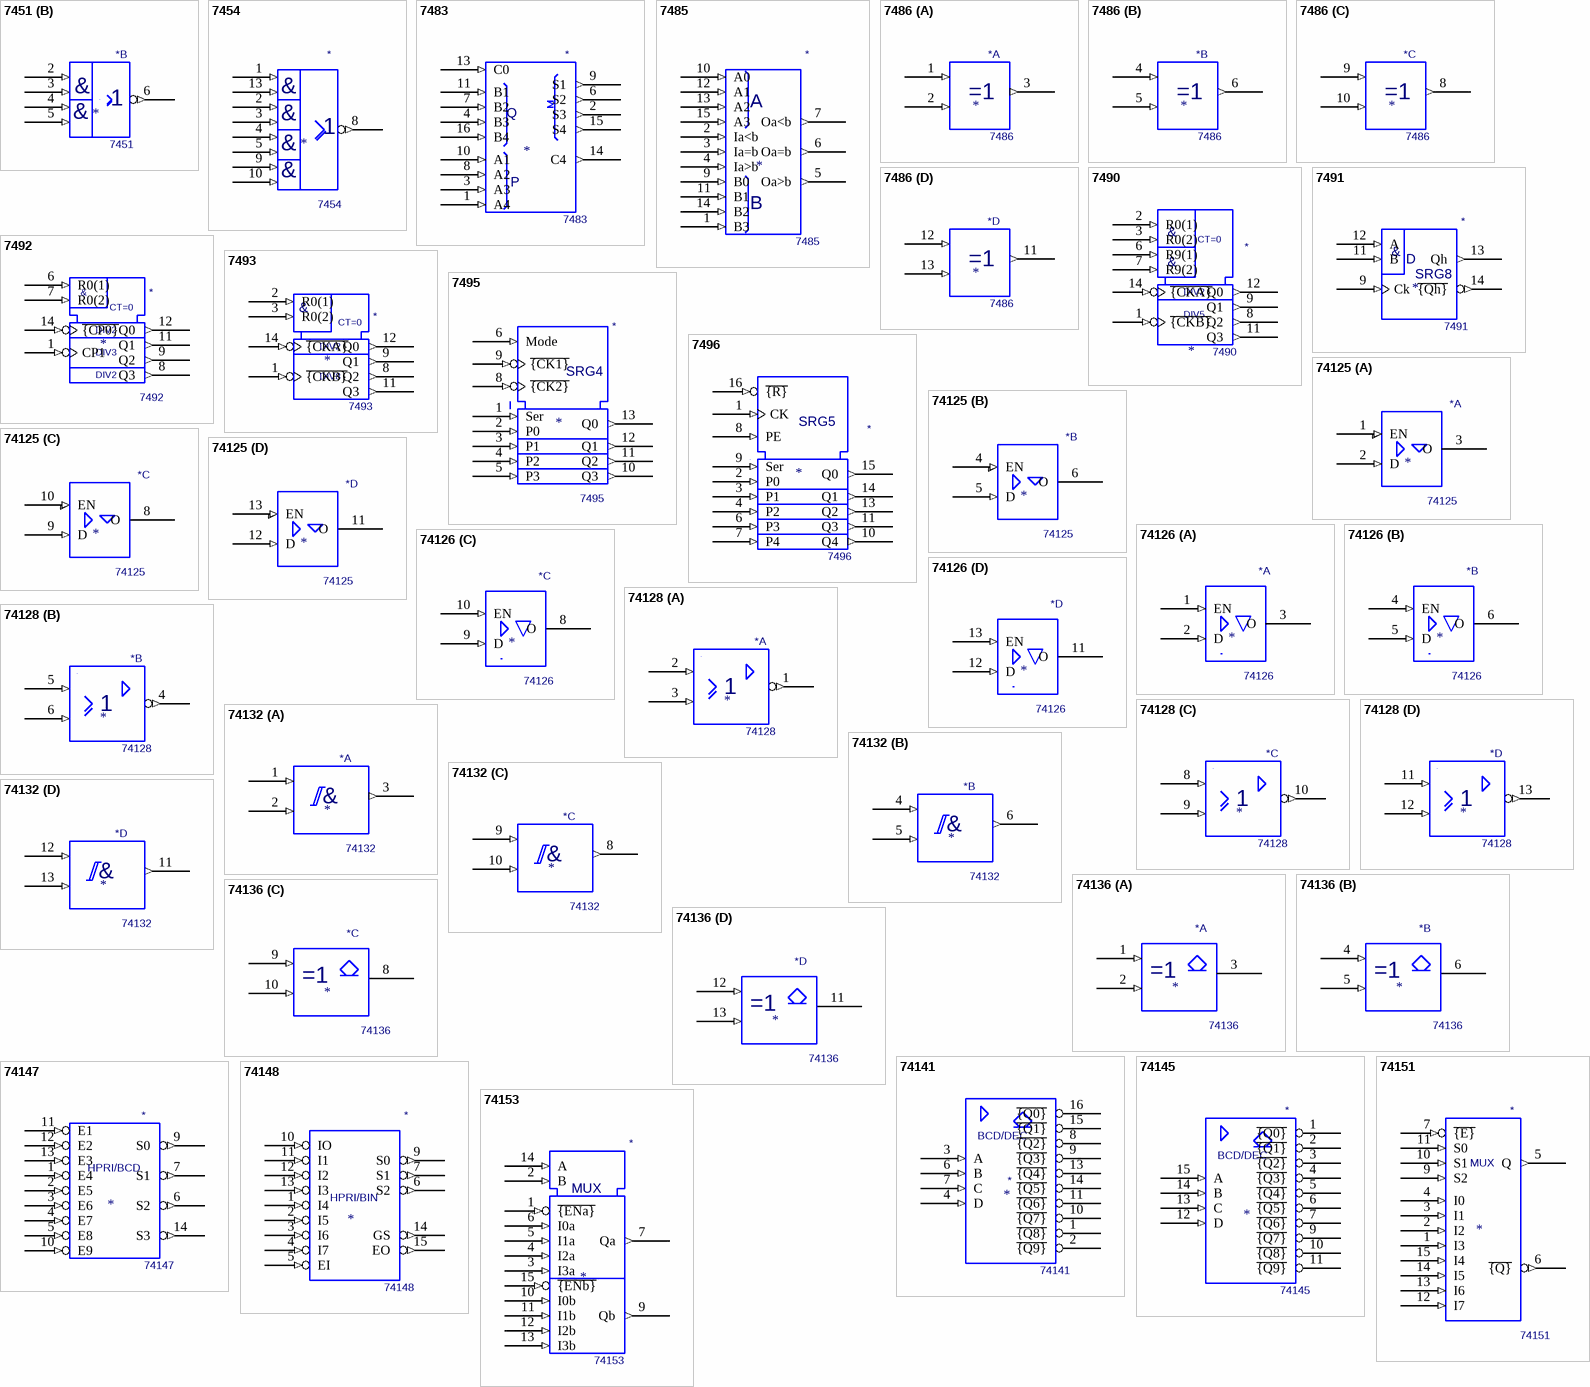
[diagram p7: symbols 7451 to 74153]

## 7451
designator *  value 7451
part A pins: 2 (in), 7 GND (power) hidden, 8 (out), 9 (in), 10 (in), 13 (in), 14 VCC (power) hidden
part B pins: 2 (in), 3 (in), 4 (in), 5 (in), 6 (out), 7 GND (power) hidden, 14 VCC (power) hidden
part A text: &; 1
part B text: &; 1

## 7454
designator *  value 7454
pins: 1 (in), 2 (in), 3 (in), 4 (in), 5 (in), 7 GND (power) hidden, 8 (out), 9 (in), 10 (in), 13 (in), 14 VCC (power) hidden
text: &

## 7483
designator *  value 7483
pins: 1 A4 (in), 2 S3 (out), 3 A3 (in), 4 B3 (in), 5 VCC (power) hidden, 6 S2 (out), 7 B2 (in), 8 A2 (in), 9 S1 (out), 10 A1 (in), 11 B1 (in), 12 GND (power) hidden, 13 C0 (in), 14 C4 (out), 15 S4 (out), 16 B4 (in)
text: Q; P

## 7485
designator *  value 7485
pins: 1 B3 (in), 2 Ia<b (in), 3 Ia=b (in), 4 Ia>b (in), 5 Oa>b (out), 6 Oa=b (out), 7 Oa<b (out), 8 GND (power) hidden, 9 B0 (in), 10 A0 (in), 11 B1 (in), 12 A1 (in), 13 A2 (in), 14 B2 (in), 15 A3 (in), 16 VCC (power) hidden
text: A; B

## 7486
designator *  value 7486
part A pins: 1 (in), 2 (in), 3 (out), 7 Gnd (power) hidden, 14 Vcc (power) hidden
part B pins: 4 (in), 5 (in), 6 (out), 7 Gnd (power) hidden, 14 Vcc (power) hidden
part C pins: 7 Gnd (power) hidden, 8 (out), 9 (in), 10 (in), 14 Vcc (power) hidden
part D pins: 7 Gnd (power) hidden, 11 (out), 12 (in), 13 (in), 14 Vcc (power) hidden

## 7490
designator *  value 7490
pins: 1 ~{{CKB}} (in), 2 R0(1) (in), 3 R0(2) (in), 5 VCC (power) hidden, 6 R9(1) (in), 7 R9(2) (in), 8 Q2 (out), 9 Q1 (out), 10 GND (in) hidden, 11 Q3 (out), 12 Q0 (out), 14 ~{{CKA}} (in)
text: &; CT=0; DIV2; DIV5

## 7491
designator *  value 7491
pins: 5 VCC (power) hidden, 9 Ck (in), 10 GND (power) hidden, 11 B (in), 12 A (in), 13 Qh (out), 14 ~{{Qh}} (out)
text: &; D; SRG8

## 7492
designator *  value 7492
pins: 1 CP1 (in), 5 VCC (power) hidden, 6 R0(1) (in), 7 R0(2) (in), 8 Q3 (out), 9 Q2 (out), 10 GND (in) hidden, 11 Q1 (out), 12 Q0 (out), 14 ~{{CP0}} (in)
text: &; CT=0; DIV2; DIV3

## 7493
designator *  value 7493
pins: 1 ~{{CKB}} (in), 2 R0(1) (in), 3 R0(2) (in), 5 VCC (power) hidden, 8 Q2 (out), 9 Q1 (out), 10 GND (in) hidden, 11 Q3 (out), 12 Q0 (out), 14 ~{{CKA}} (in)
text: &; CT=0; DIV2; DIV8

## 7495
designator *  value 7495
pins: 1 Ser (in), 2 P0 (in), 3 P1 (in), 4 P2 (in), 5 P3 (in), 6 Mode (in), 7 GND (power) hidden, 8 ~{{CK2}} (in), 9 ~{{CK1}} (in), 10 Q3 (out), 11 Q2 (out), 12 Q1 (out), 13 Q0 (out), 14 VCC (power) hidden
text: SRG4

## 7496
designator *  value 7496
pins: 1 CK (in), 2 P0 (in), 3 P1 (in), 4 P2 (in), 5 VCC (power) hidden, 6 P3 (in), 7 P4 (in), 8 PE (in), 9 Ser (in), 10 Q4 (out), 11 Q3 (out), 12 GND (power) hidden, 13 Q2 (out), 14 Q1 (out), 15 Q0 (out), 16 ~{{R}} (in)
text: SRG5

## 74125
designator *  value 74125
part A pins: 1 EN (in), 2 D (in), 3 O (hiz), 7 GND (power) hidden, 14 VCC (power) hidden
part B pins: 4 EN (in), 5 D (in), 6 O (hiz), 7 GND (power) hidden, 14 VCC (power) hidden
part C pins: 7 GND (power) hidden, 8 O (hiz), 9 D (in), 10 EN (in), 14 VCC (power) hidden
part D pins: 7 GND (power) hidden, 11 O (hiz), 12 D (in), 13 EN (in), 14 VCC (power) hidden

## 74126
designator *  value 74126
part A pins: 1 EN (in), 2 D (in), 3 O (hiz), 7 GND (power) hidden, 14 VCC (power) hidden
part B pins: 4 EN (in), 5 D (in), 6 O (hiz), 7 GND (power) hidden, 14 VCC (power) hidden
part C pins: 7 GND (power) hidden, 8 O (hiz), 9 D (in), 10 EN (in), 14 VCC (power) hidden
part D pins: 7 GND (power) hidden, 11 O (hiz), 12 D (in), 13 EN (in), 14 VCC (power) hidden

## 74128
designator *  value 74128
part A pins: 1 (out), 2 (in), 3 (in), 7 GND (power) hidden, 14 VCC (power) hidden
part B pins: 4 (out), 5 (in), 6 (in), 7 GND (power) hidden, 14 VCC (power) hidden
part C pins: 7 GND (power) hidden, 8 (in), 9 (in), 10 (out), 14 VCC (power) hidden
part D pins: 7 GND (power) hidden, 11 (in), 12 (in), 13 (out), 14 VCC (power) hidden

## 74132
designator *  value 74132
part A pins: 1 (in), 2 (in), 3 (out), 7 Gnd (power) hidden, 14 Vcc (power) hidden
part B pins: 4 (in), 5 (in), 6 (out), 7 Gnd (power) hidden, 14 Vcc (power) hidden
part C pins: 7 Gnd (power) hidden, 8 (out), 9 (in), 10 (in), 14 Vcc (power) hidden
part D pins: 7 Gnd (power) hidden, 11 (out), 12 (in), 13 (in), 14 Vcc (power) hidden
part A text: &
part B text: &
part C text: &
part D text: &